# Altium schematic symbol library SBCLib.SchLib: 99 symbols (part 1 of 2)
Pins are listed as number, name and electrical type; pins without a type are passive.

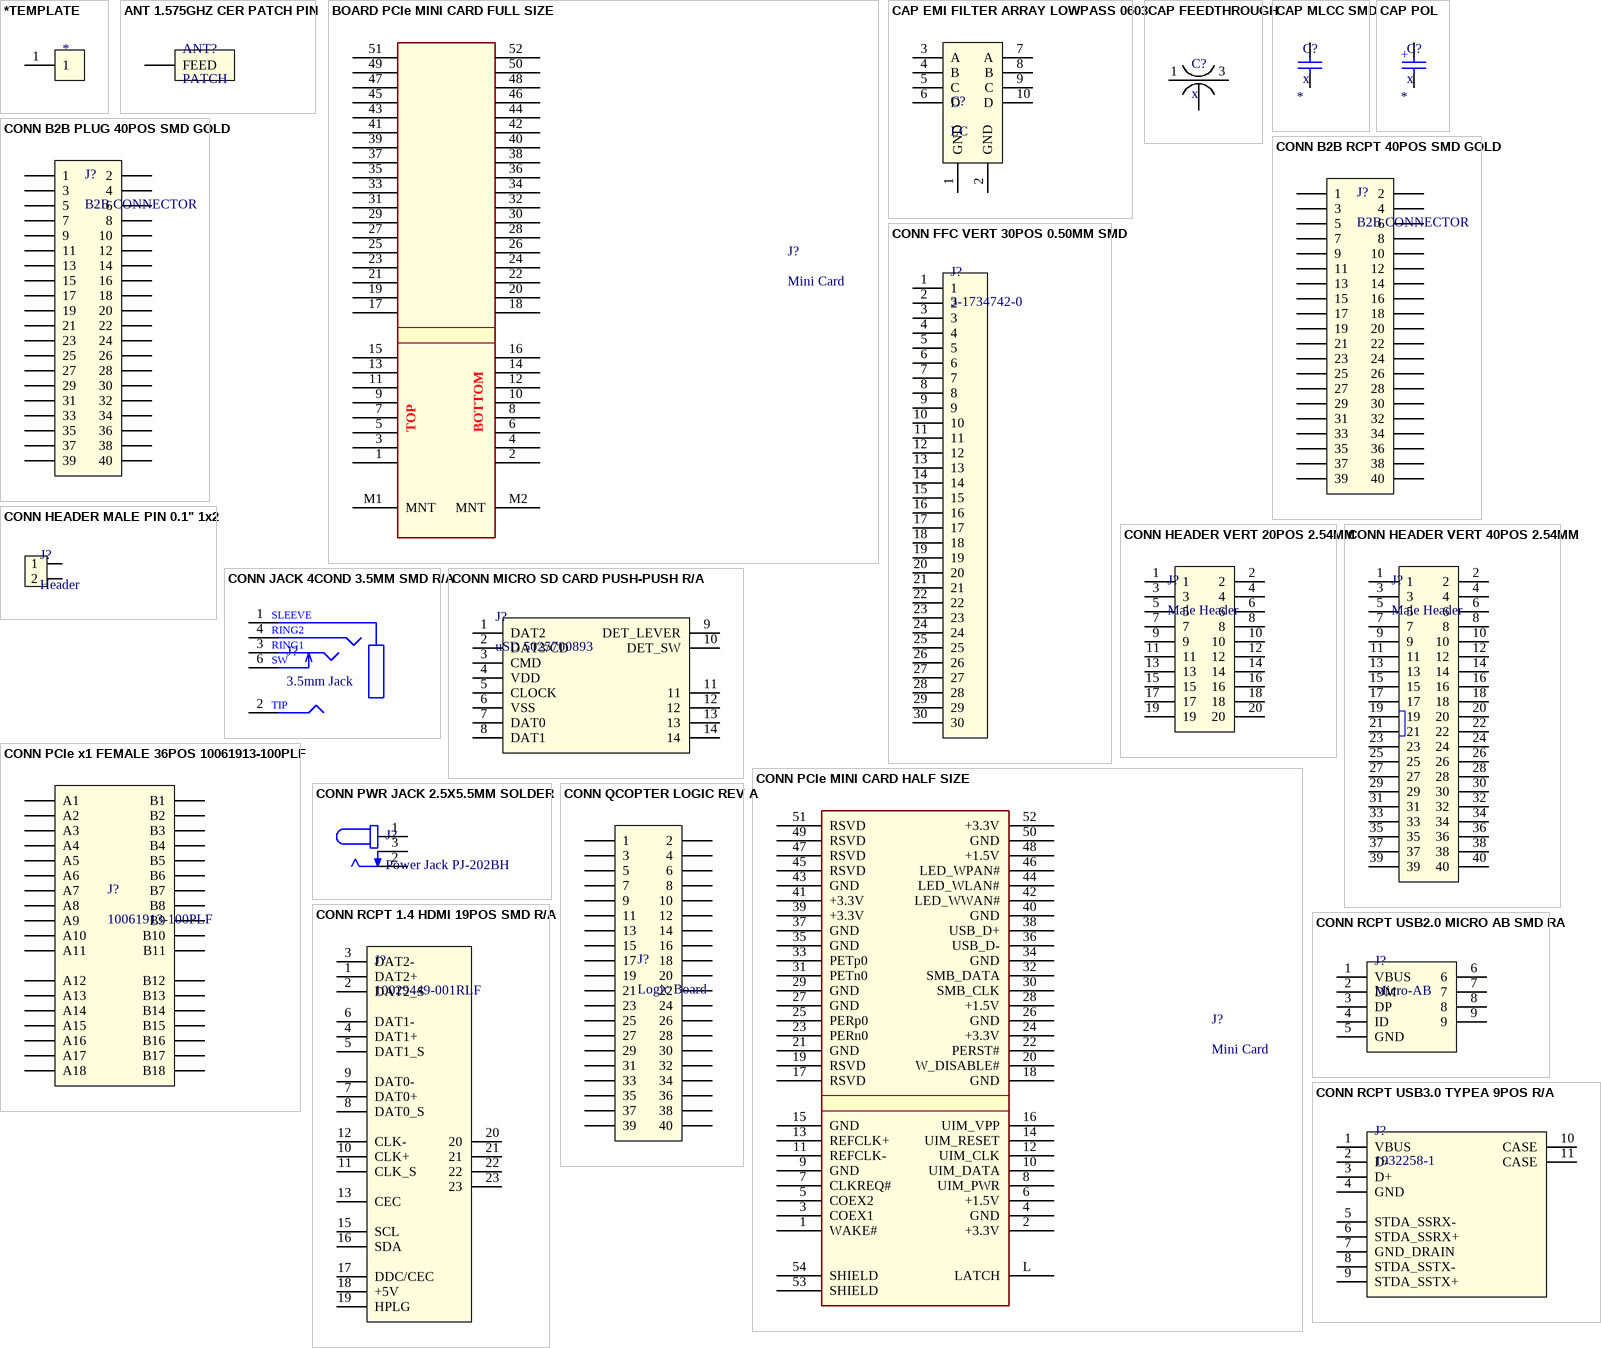
[diagram p0: symbols *TEMPLATE to CONN RCPT USB3.0 TYPEA 9POS R/A]

## *TEMPLATE
designator *
1. Manufacturer: *; 2. Manufacturer Part Number: *; 3. Date Modified: *
pins: 1

## ANT 1.575GHZ CER PATCH PIN
designator ANT?, comment PATCH
ANT 1.575GHZ CER PATCH PIN; 1. Manufacturer: Taoglas Limited; 2. Manufacturer Part Number: GP.1575.18.4.A.02; 3. Date Modified: 20201122
footprint TAOGLAS_GP.1575.18.4.A.02
pins: 1 FEED

## BOARD PCIe MINI CARD FULL SIZE
designator J?, comment Mini Card  (no BOM)
BOARD PCIe MINI CARD FULL SIZE; 3. Date Modified: 20201018
footprint CONN EDGE PCIE MINI CARD
pins: 1 WAKE#, 2 +3.3V (power), 3 COEX1, 4 GND (power), 5 COEX2, 6 +1.5V (power), 7 CLKREQ#, 8 UIM_PWR, 9 GND (power), 10 UIM_DATA, 11 REFCLK-, 12 UIM_CLK, 13 REFCLK+, 14 UIM_RESET, 15 GND (power), 16 UIM_VPP, 17 RSVD, 18 GND (power), 19 RSVD, 20 W_DISABLE#, 21 GND (power), 22 PERST#, 23 PERn0, 24 +3.3V (power), 25 PERp0, 26 GND (power), 27 GND (power), 28 +1.5V (power), 29 GND (power), 30 SMB_CLK, 31 PETn0, 32 SMB_DATA, 33 PETp0, 34 GND (power), 35 GND (power), 36 USB_D-, 37 GND (power), 38 USB_D+, 39 +3.3V (power), 40 GND (power), 41 +3.3V (power), 42 LED_WWAN#, 43 GND, 44 LED_WLAN#, 45 RSVD, 46 LED_WPAN#, 47 RSVD, 48 +1.5V (power), 49 RSVD, 50 GND (power), 51 RSVD, 52 +3.3V (power), M1 MNT, M2 MNT
text: TOP; BOTTOM

## CAP EMI FILTER ARRAY LOWPASS 0603
designator C?, comment LC
CAP EMI FILTER ARRAY LOWPASS 0603; 1. Manufacturer: Murata Electronics; 2. Manufacturer Part Number: NFA18SL307V1A45L; 3. Date Modified: 20201122
footprint SMD CAP FEEDTHROUGH ARRAY
pins: 1 GND, 2 GND, 3 A, 4 B, 5 C, 6 D, 7 A, 8 B, 9 C, 10 D

## CAP FEEDTHROUGH
designator C?, comment x
Generic 4 pad feedthrough cap
footprint 0805 3 PAD THROUGH CAP
pins: 1, 2, 3, 4

## CAP MLCC SMD
designator C?, comment x
Generic MLCC SMD Capacitor Symbol; 1. Manufacturer: *; 2. Manufacturer Part Number: *; 3. Date Modified: *; 4. Package: *
footprint SMD CAP 0805
footprint SMD CAP 0603
footprint SMD CAP 0402
footprint SMD CAP 0201
footprint SMD CAP 1206
pins: 1, 2

## CAP POL
designator C?, comment x
Generic Polarized Capacitor Symbol; 1. Manufacturer: *; 2. Manufacturer Part Number: *; 3. Date Modified: *; 4. Package: *
footprint CAP POL 16SVPC100M
footprint SMD CAP TANT 2917
footprint CAP POL UUG2A101MNQ1ZD
footprint CAP POL UUG1J331MNQ6MS
footprint CAP POL UCD1J221MNQ1MS
footprint POLARIZED CAP THROUGH HOLE SIDE MOUNT
pins: 1, 2
text: +

## CONN B2B PLUG 40POS SMD GOLD
designator J?, comment B2B CONNECTOR
40 Position Connector Plug, Center Strip Contacts Surface Mount Gold; 1. Manufacturer: Amphenol ICC (FCI); 2. Manufacturer Part Number: 10144517-041802LF; 3. Date Modified: 20201130
footprint CONN B2B PLUG 40POS SMD GOLD (10144518)
pins: 1, 2, 3, 4, 5, 6, 7, 8, 9, 10, 11, 12, 13, 14, 15, 16, 17, 18, 19, 20, 21, 22, 23, 24, 25, 26, 27, 28, 29, 30, 31, 32, 33, 34, 35, 36, 37, 38, 39, 40

## CONN B2B RCPT 40POS SMD GOLD
designator J?, comment B2B CONNECTOR
40 Position Connector Receptacle, Outer Shroud Contacts Surface Mount Gold; 1. Manufacturer: Amphenol ICC (FCI); 2. Manufacturer Part Number: 10144517-041802LF; 3. Date Modified: 20201130
footprint CONN B2B RECPT 40POS SMD GOLD (10144517)
pins: 1, 2, 3, 4, 5, 6, 7, 8, 9, 10, 11, 12, 13, 14, 15, 16, 17, 18, 19, 20, 21, 22, 23, 24, 25, 26, 27, 28, 29, 30, 31, 32, 33, 34, 35, 36, 37, 38, 39, 40

## CONN FFC VERT 30POS 0.50MM SMD
designator J?, comment 3-1734742-0
CONN FFC VERT 30POS 0.50MM SMD; 1. Manufacturer: TE Connectivity AMP Connectors; 2. Manufacturer Part Number: 3-1734742-0; 3. Date Modified: 20200906
footprint CONN FFC 3-1734742-0
pins: 1, 2, 3, 4, 5, 6, 7, 8, 9, 10, 11, 12, 13, 14, 15, 16, 17, 18, 19, 20, 21, 22, 23, 24, 25, 26, 27, 28, 29, 30

## CONN HEADER MALE PIN 0.1" 1x2
designator J?, comment Header
CONN HEADER MALE PIN 0.1" 1x2; 1. Manufacturer: Adam Tech; 2. Manufacturer Part Number: PH1-02-UA; 3. Date Modified: 20200913
footprint HEADER 0.1" 1x2 MALE PIN
pins: 1, 2

## CONN HEADER VERT 20POS 2.54MM
designator J?, comment Male Header
CONN HEADER VERT 20POS 2.54MM; 1. Manufacturer: Amphenol ICC (FCI); 2. Manufacturer Part Number: 67996-420HLF; 3. Date Modified: 20200911
footprint CONN HEADER PINS 0.1" 2X10
pins: 1, 2, 3, 4, 5, 6, 7, 8, 9, 10, 11, 12, 13, 14, 15, 16, 17, 18, 19, 20

## CONN HEADER VERT 40POS 2.54MM
designator J?, comment Male Header
CONN HEADER VERT 40POS 2.54MM; 1. Manufacturer: 3M; 2. Manufacturer Part Number: 30340-6002HB; 3. Date Modified: 20200911
footprint CONN HEADER PINS SHROUDED .1" 2x20
pins: 1, 2, 3, 4, 5, 6, 7, 8, 9, 10, 11, 12, 13, 14, 15, 16, 17, 18, 19, 20, 21, 22, 23, 24, 25, 26, 27, 28, 29, 30, 31, 32, 33, 34, 35, 36, 37, 38, 39, 40

## CONN JACK 4COND 3.5MM SMD R/A
designator J?, comment 3.5mm Jack
CONN JACK 4COND 3.5MM SMD R/A; 1. Manufacturer: CUI Devices; 2. Manufacturer Part Number: SJ-43515RS-SMT-TR; 3. Date Modified: 20200907
footprint CONN JACK 4COND 3.5MM SMD R/A
pins: 1, 2 TIP, 3, 4, 6
text: SLEEVE; RING2; RING1; SW

## CONN MICRO SD CARD PUSH-PUSH R/A
designator J?, comment uSD 5025700893
CONN MICRO SD CARD PUSH-PUSH R/A; 1. Manufacturer: Molex; 2. Manufacturer Part Number: 5025700893; 3. Date Modified: 20200809
footprint CONN MICROSD MOLEX 5025700893
pins: 1 DAT2, 2 DAT3/CD, 3 CMD, 4 VDD, 5 CLOCK, 6 VSS, 7 DAT0, 8 DAT1, 9 DET_LEVER, 10 DET_SW, 11, 12, 13, 14

## CONN PCIe MINI CARD HALF SIZE
designator J?, comment Mini Card
CONN PCIe MINI CARD HALF SIZE; 1. Manufacturer: Molex, TE Connectivity; 2. Manufacturer Part Number: 0480995701, 1775838-2; 3. Date Modified: 20201018
footprint CONN PCIE MINI CARD HALF SMT 1775838-2
pins: 1 WAKE#, 2 +3.3V (power), 3 COEX1, 4 GND (power), 5 COEX2, 6 +1.5V (power), 7 CLKREQ#, 8 UIM_PWR, 9 GND (power), 10 UIM_DATA, 11 REFCLK-, 12 UIM_CLK, 13 REFCLK+, 14 UIM_RESET, 15 GND (power), 16 UIM_VPP, 17 RSVD, 18 GND (power), 19 RSVD, 20 W_DISABLE#, 21 GND (power), 22 PERST#, 23 PERn0, 24 +3.3V (power), 25 PERp0, 26 GND (power), 27 GND (power), 28 +1.5V (power), 29 GND (power), 30 SMB_CLK, 31 PETn0, 32 SMB_DATA, 33 PETp0, 34 GND (power), 35 GND (power), 36 USB_D-, 37 GND (power), 38 USB_D+, 39 +3.3V (power), 40 GND (power), 41 +3.3V (power), 42 LED_WWAN#, 43 GND, 44 LED_WLAN#, 45 RSVD, 46 LED_WPAN#, 47 RSVD, 48 +1.5V (power), 49 RSVD, 50 GND (power), 51 RSVD, 52 +3.3V (power), 53 SHIELD, 54 SHIELD, L LATCH

## CONN PCIe x1 FEMALE 36POS 10061913-100PLF
designator J?, comment 10061913-100PLF
CONN PCIe x1 FEMALE 36POS 10061913-100PLF; 1. Manufacturer: Amphenol ICC (FCI); 2. Manufacturer Part Number: 10061913-100PLF; 3. Date Modified: 20200821
footprint CONN PCIe x1 FEMALE
pins: A1, A2, A3, A4, A5, A6, A7, A8, A9, A10, A11, A12, A13, A14, A15, A16, A17, A18, B1, B2, B3, B4, B5, B6, B7, B8, B9, B10, B11, B12, B13, B14, B15, B16, B17, B18

## CONN PWR JACK 2.5X5.5MM SOLDER
designator J?, comment Power Jack PJ-202BH
CONN PWR JACK 2.5X5.5MM SOLDER; 1. Manufacturer: CUI Devices; 2. Manufacturer Part Number: PJ-202BH; 3. Date Modified: 20200807
footprint CONN PWR JACK 2.5MM
pins: 1, 2, 3

## CONN QCOPTER LOGIC REV A
designator J?, comment Logic Board
CONN QCOPTER LOGIC REV A; 1. Manufacturer: Amphenol ICC (FCI); 2. Manufacturer Part Number: 10144517-041802LF; 3. Date Modified: 20201203
footprint CONN QCOPTER LOGIC Rev A
pins: 1, 2, 3, 4, 5, 6, 7, 8, 9, 10, 11, 12, 13, 14, 15, 16, 17, 18, 19, 20, 21, 22, 23, 24, 25, 26, 27, 28, 29, 30, 31, 32, 33, 34, 35, 36, 37, 38, 39, 40

## CONN RCPT 1.4 HDMI 19POS SMD R/A
designator J?, comment 10029449-001RLF
CONN RCPT 1.4 HDMI 19POS SMD R/A; 1. Manufacturer: Amphenol ICC (FCI); 2. Manufacturer Part Number: 10029449-001RLF; 3. Date Modified: 20200821
footprint CONN HDMI 10029449-001RLF
pins: 1 DAT2+, 2 DAT2_S, 3 DAT2-, 4 DAT1+, 5 DAT1_S, 6 DAT1-, 7 DAT0+, 8 DAT0_S, 9 DAT0-, 10 CLK+, 11 CLK_S, 12 CLK-, 13 CEC, 15 SCL, 16 SDA, 17 DDC/CEC, 18 +5V, 19 HPLG, 20, 21, 22, 23

## CONN RCPT USB2.0 MICRO AB SMD RA
designator J?, comment Micro-AB
CONN RCPT USB2.0 MICRO AB SMD RA; 1. Manufacturer: Hirose Electric Co Ltd; 2. Manufacturer Part Number: ZX62-AB-5PA(31); 3. Date Modified: 20200821
footprint CONN USB MICRO_AB
pins: 1 VBUS, 2 DM, 3 DP, 4 ID, 5 GND, 6, 7, 8, 9

## CONN RCPT USB3.0 TYPEA 9POS R/A
designator J?, comment 1932258-1
CONN RCPT USB3.0 TYPEA 9POS R/A; 1. Manufacturer: TE Connectivity AMP Connectors; 2. Manufacturer Part Number: 1932258-1; 3. Date Modified: 20200821
footprint CONN USB3.0 1932258-1
pins: 1 VBUS, 2 D-, 3 D+, 4 GND, 5 STDA_SSRX-, 6 STDA_SSRX+, 7 GND_DRAIN, 8 STDA_SSTX-, 9 STDA_SSTX+, 10 CASE, 11 CASE

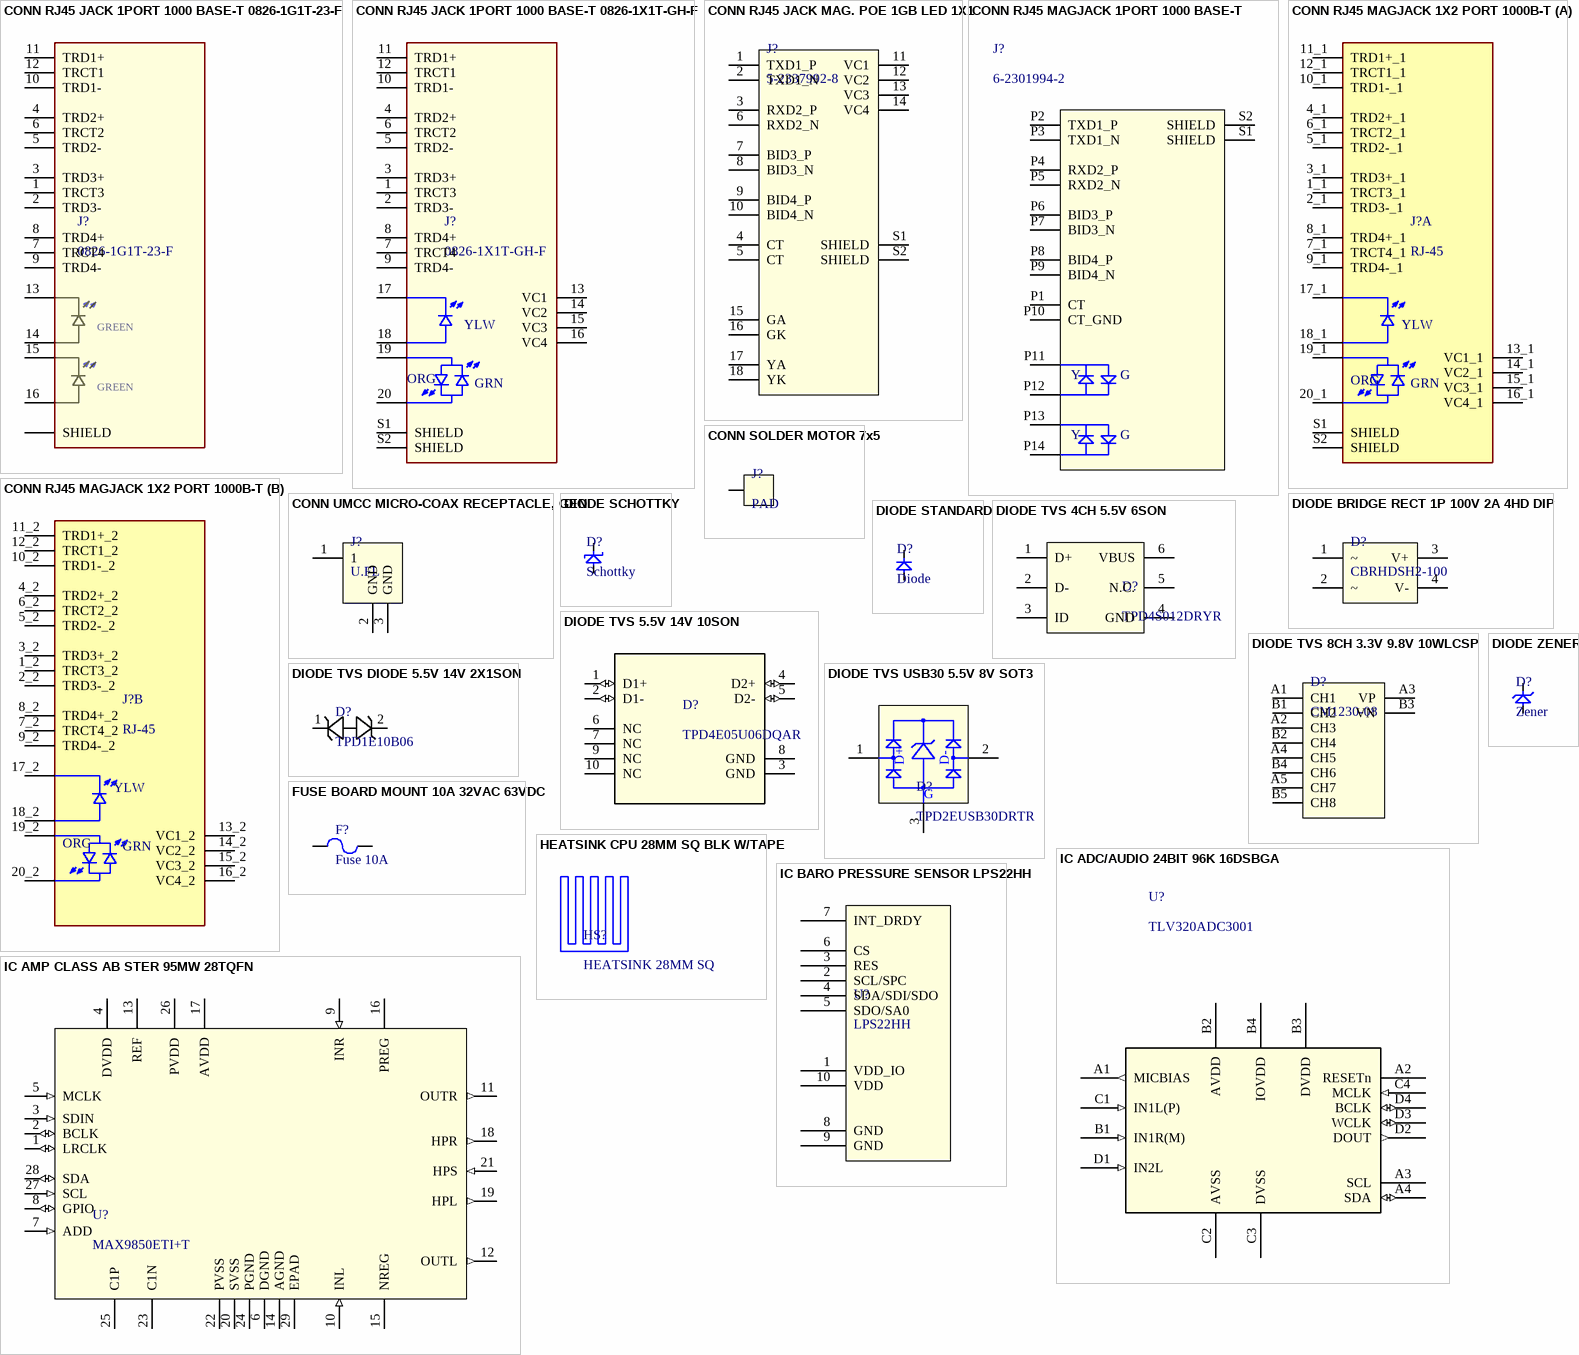
[diagram p1: symbols CONN RJ45 JACK 1PORT 1000 BASE-T 0826-1G1T-23-F to IC BARO PRESSURE SENSOR LPS22HH]

## CONN RJ45 JACK 1PORT 1000 BASE-T 0826-1G1T-23-F
designator J?, comment 0826-1G1T-23-F
CONN RJ45 JACK 1PORT 1000 BASE-T 0826-1G1T-23-F; 1. Manufacturer: Bel Fuse Inc.; 2. Manufacturer Part Number: 0826-1G1T-23-F; 3. Date Modified: 20200831
footprint CONN RJ45 JACK MAG 1GB 0826-1G1T-23-F (0826-1G1T-23-F)
pins: 1 TRCT3, 2 TRD3-, 3 TRD3+, 4 TRD2+, 5 TRD2-, 6 TRCT2, 7 TRCT4, 8 TRD4+, 9 TRD4-, 10 TRD1-, 11 TRD1+, 12 TRCT1, 13, 14, 15, 16, S1 SHIELD, S2 SHIELD
text: GREEN

## CONN RJ45 JACK 1PORT 1000 BASE-T 0826-1X1T-GH-F
designator J?, comment 0826-1X1T-GH-F
CONN JACK 1PORT 1000 BASE-T 0826-1X1T-GH-F; 1. Manufacturer: Bel Fuse Inc.; 2. Manufacturer Part Number: 0826-1X1T-GH-F; 3. Date Modified: 20200831
footprint CONN RJ45 JACK MAG 1GB POEp 0826-1X1T-GH-F (0826-1X1T-GH-F)
pins: 1 TRCT3, 2 TRD3-, 3 TRD3+, 4 TRD2+, 5 TRD2-, 6 TRCT2, 7 TRCT4, 8 TRD4+, 9 TRD4-, 10 TRD1-, 11 TRD1+, 12 TRCT1, 13 VC1, 14 VC2, 15 VC3, 16 VC4, 17, 18, 19, 20, S1 SHIELD, S2 SHIELD
text: YLW; ORG; GRN

## CONN RJ45 JACK MAG. POE 1GB LED 1X1
designator J?, comment 5-2337992-8
CONN RJ45 JACK MAG. POE 1GB LED 1X1; 1. Manufacturer: TE Connectivity AMP Connectors; 2. Manufacturer Part Number: 5-2337992-8; 3. Date Modified: 20200824
footprint CONN RJ45 JACK MAG POE 1GB LED 1X1
pins: 1 TXD1_P, 2 TXD1_N, 3 RXD2_P, 4 CT, 5 CT, 6 RXD2_N, 7 BID3_P, 8 BID3_N, 9 BID4_P, 10 BID4_N, 11 VC1, 12 VC2, 13 VC3, 14 VC4, 15 GA, 16 GK, 17 YA, 18 YK, S1 SHIELD, S2 SHIELD

## CONN RJ45 MAGJACK 1PORT 1000 BASE-T
designator J?, comment 6-2301994-2
CONN RJ45 MAGJACK 1PORT 1000 BASE-T; 1. Manufacturer: TE Connectivity AMP Connectors; 2. Manufacturer Part Number: 6-2301994-2; 3. Date Modified: 20200824
footprint CONN RJ45 JACK 1PORT 1000 BASE-T (6-2301994-2)
pins: P1 CT, P2 TXD1_P, P3 TXD1_N, P4 RXD2_P, P5 RXD2_N, P6 BID3_P, P7 BID3_N, P8 BID4_P, P9 BID4_N, P10 CT_GND, P11, P12, P13, P14, S1 SHIELD, S2 SHIELD
text: Y; G

## CONN RJ45 MAGJACK 1X2 PORT 1000B-T
designator J?, comment RJ-45
CONN RJ45 MAGJACK 1X2 PORT 1000B-T; 1. Manufacturer: Bel Fuse Inc.; 2. Manufacturer Part Number: 0826-1X2T-HS-F; 3. Date Modified: 20200821
footprint CONN RJ45 1x2 0826-1X2T-HS-F
part A pins: 1_1 TRCT3_1, 2_1 TRD3-_1, 3_1 TRD3+_1, 4_1 TRD2+_1, 5_1 TRD2-_1, 6_1 TRCT2_1, 7_1 TRCT4_1, 8_1 TRD4+_1, 9_1 TRD4-_1, 10_1 TRD1-_1, 11_1 TRD1+_1, 12_1 TRCT1_1, 13_1 VC1_1, 14_1 VC2_1, 15_1 VC3_1, 16_1 VC4_1, 17_1, 18_1, 19_1, 20_1, S1 SHIELD, S2 SHIELD
part B pins: 1_2 TRCT3_2, 2_2 TRD3-_2, 3_2 TRD3+_2, 4_2 TRD2+_2, 5_2 TRD2-_2, 6_2 TRCT2_2, 7_2 TRCT4_2, 8_2 TRD4+_2, 9_2 TRD4-_2, 10_2 TRD1-_2, 11_2 TRD1+_2, 12_2 TRCT1_2, 13_2 VC1_2, 14_2 VC2_2, 15_2 VC3_2, 16_2 VC4_2, 17_2, 18_2, 19_2, 20_2
part A text: YLW; ORG; GRN
part B text: YLW; ORG; GRN

## CONN SOLDER MOTOR 7x5
designator J?, comment PAD  (no BOM)
CONN SOLDER MOTOR 7x5; 1. Manufacturer: *; 2. Manufacturer Part Number: *; 3. Date Modified: *
footprint CONN SOLDER MOTOR
pins: 1

## CONN UMCC MICRO-COAX RECEPTACLE, GEN
designator J?, comment U.FL
CONN UMCC MICRO-COAX RECEPTACLE, GEN; 1. Manufacturer: TE Connectivity AMP Connectors; 2. Manufacturer Part Number: 2337019-1; 3. Date Modified: 20201122
footprint U.FL
pins: 1, 2 GND, 3 GND

## DIODE BRIDGE RECT 1P 100V 2A 4HD DIP
designator D?, comment CBRHDSH2-100
DIODE BRIDGE RECT 1P 100V 2A 4HD DIP; 1. Manufacturer: Central Semiconductor Corp; 2. Manufacturer Part Number: CBRHDSH2-100; 3. Date Modified: 20200824
footprint SMD BRIDGE RECTIFIER CBRHDSH2-100
pins: 1 ~, 2 ~, 3 V+, 4 V-

## DIODE SCHOTTKY
designator D?, comment Schottky
Generic Schottky Diode Symbol; 1. Manufacturer: *; 2. Manufacturer Part Number: *; 3. Date Modified: 20200807
footprint DIODE SMC (DO-214AB) AK
footprint DIODE 0402 2-X1SON
footprint DIODE Z5-T COMCHIP
footprint DIODE SOD123W
pins: A, K

## DIODE STANDARD
designator D?, comment Diode
Generic Unidirectional Standard Diode Symbol; 1. Manufacturer: *; 2. Manufacturer Part Number: *; 3. Date Modified: 20200807
footprint DIODE SMC (DO-214AB) AK
footprint DIODE 0402 2-X1SON
footprint DIODE SMA (DO-214AC) (GENERIC SMA DIODE)
footprint DIODE SOD123
footprint DIODE SOD-523F
pins: A, K

## DIODE TVS 4CH 5.5V 6SON
designator D?, comment TPD4S012DRYR
DIODE TVS 4CH 5.5V 6SON; 1. Manufacturer: Texas Instruments; 2. Manufacturer Part Number: TPD4S012DRYR; 3. Date Modified: 20200910
footprint SON-6 1.45x1
pins: 1 D+, 2 D-, 3 ID, 4 GND (power), 5 N.C., 6 VBUS

## DIODE TVS 5.5V 14V 10SON
designator D?, comment TPD4E05U06DQAR
DIODE TVS 5.5V 14V 10SON; 1. Manufacturer: Texas Instruments; 2. Manufacturer Part Number: TPD4E05U06DQAR; 3. Date Modified: 20200910
footprint USON-10 2.5x1
pins: 1 D1+ (io), 2 D1- (io), 3 GND (power), 4 D2+ (io), 5 D2- (io), 6 NC, 7 NC, 8 GND (power), 9 NC, 10 NC

## DIODE TVS 8CH 3.3V 9.8V 10WLCSP
designator D?, comment CM1230-08
DIODE TVS 8CH 3.3V 9.8V 10WLCSP; 1. Manufacturer: ON Semiconductor; 2. Manufacturer Part Number: CM1230-08CP; 3. Date Modified: 20200911
footprint WLCSP-10
pins: A1 CH1, A2 CH3, A3 VP, A4 CH5, A5 CH7, B1 CH2, B2 CH4, B3 VN, B4 CH6, B5 CH8

## DIODE TVS DIODE 5.5V 14V 2X1SON
designator D?, comment TPD1E10B06
DIODE TVS DIODE 5.5V 14V 2X1SON; 1. Manufacturer: Texas Instruments; 2. Manufacturer Part Number: TPD1E10B06DPYR; 3. Date Modified: 20200805
footprint DIODE 0402 2-X1SON
pins: 1, 2

## DIODE TVS USB30 5.5V 8V SOT3
designator D?, comment TPD2EUSB30DRTR
DIODE TVS USB30 5.5V 8V SOT3; 1. Manufacturer: Texas Instruments; 2. Manufacturer Part Number: TPD2EUSB30DRTR; 3. Date Modified: 20200910
footprint SOT-3
pins: 1 D+, 2 D-, 3 GND
text: G

## DIODE ZENER
designator D?, comment Zener
Generic Unidirectional Zener Diode Symbol; 1. Manufacturer: *; 2. Manufacturer Part Number: *; 3. Date Modified: 20200807
footprint DIODE SMC (DO-214AB) AK
footprint DIODE 0402 2-X1SON
footprint DIODE SMA (DO-214AC) (GENERIC SMA DIODE)
footprint DIODE SOD-523
pins: A, K

## FUSE BOARD MOUNT 10A 32VAC 63VDC
designator F?, comment Fuse 10A
FUSE BOARD MOUNT 10A 32VAC 63VDC; 1. Manufacturer: Littelfuse Inc.; 2. Manufacturer Part Number: 0458010.DR; 3. Date Modified: 20200807
footprint FUSE SMT 1206
pins: 1, 2

## HEATSINK CPU 28MM SQ BLK W/TAPE
designator HS?, comment HEATSINK 28MM SQ
HEATSINK CPU 28MM SQ BLK W/TAPE; 1. Manufacturer: Wakefield-Vette; 2. Manufacturer Part Number: 658-60ABT1E; 3. Date Modified: 20200913
footprint HEATSINK CPU 28MM SQ BLK W/TAPE

## IC ADC/AUDIO 24BIT 96K 16DSBGA
designator U?, comment TLV320ADC3001
IC ADC/AUDIO 24BIT 96K 16DSBGA; 1. Manufacturer: Texas Instruments; 2. Manufacturer Part Number: TLV320ADC3001IYZHT; 3. Date Modified: 20200909
footprint DSBGA-16
pins: A1 MICBIAS (out), A2 RESETn, A3 SCL, A4 SDA (io), B1 IN1R(M) (in), B2 AVDD (power), B3 DVDD (power), B4 IOVDD (power), C1 IN1L(P) (in), C2 AVSS (power), C3 DVSS (power), C4 MCLK (in), D1 IN2L (in), D2 DOUT (out), D3 WCLK (io), D4 BCLK (io)

## IC AMP CLASS AB STER 95MW 28TQFN
designator U?, comment MAX9850ETI+T
IC AMP CLASS AB STER 95MW 28TQFN; 1. Manufacturer: Maxim Integrated; 2. Manufacturer Part Number: MAX9850ETI+T; 3. Date Modified: 20200907
footprint QFN-28 5x5
pins: 1 LRCLK (io), 2 BCLK (io), 3 SDIN (in), 4 DVDD (power), 5 MCLK (in), 6 DGND (power), 7 ADD (in), 8 GPIO (io), 9 INR (in), 10 INL (in), 11 OUTR (out), 12 OUTL (out), 13 REF (power), 14 AGND (power), 15 NREG (power), 16 PREG (power), 17 AVDD (power), 18 HPR (out), 19 HPL (out), 20 SVSS (power), 21 HPS (in), 22 PVSS (power), 23 C1N, 24 PGND (power), 25 C1P, 26 PVDD (power), 27 SCL (in), 28 SDA (io), 29 EPAD (power)

## IC BARO PRESSURE SENSOR LPS22HH
designator U?, comment LPS22HH
IC BARO PRESSURE SENSOR LPS22HH; 1. Manufacturer: STMicroelectronics; 2. Manufacturer Part Number: LPS22HHTR; 3. Date Modified: 20201122
footprint LGA-10
pins: 1 VDD_IO (power), 2 SCL/SPC, 3 RES, 4 SDA/SDI/SDO, 5 SDO/SA0, 6 CS, 7 INT_DRDY, 8 GND, 9 GND, 10 VDD (power)

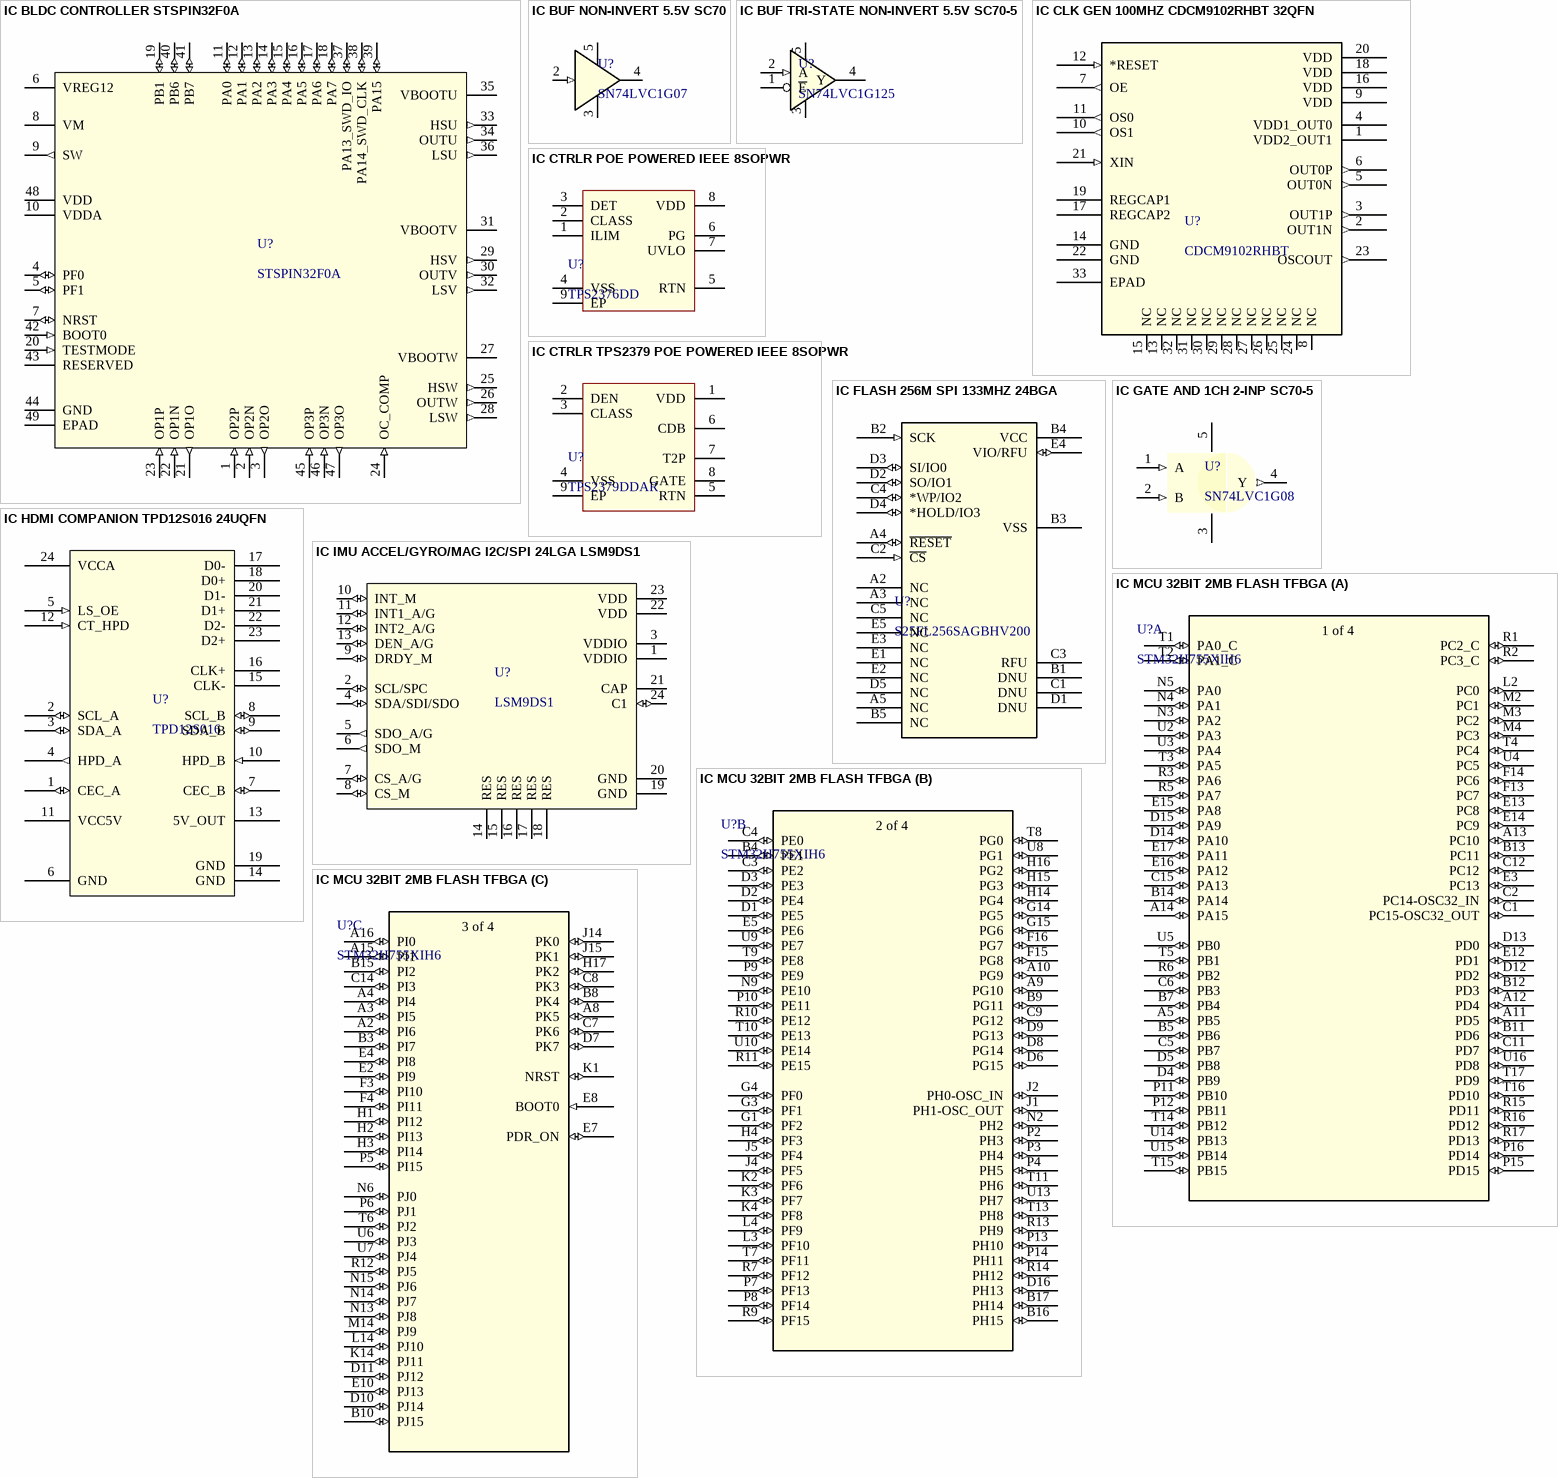
[diagram p2: symbols IC BLDC CONTROLLER STSPIN32F0A to IC MCU 32BIT 2MB FLASH TFBGA]

## IC BLDC CONTROLLER STSPIN32F0A
designator U?, comment STSPIN32F0A
IC BLDC CONTROLLER STSPIN32F0A; 1. Manufacturer: ST; 2. Manufacturer Part Number: STSPIN32F0A; 3. Date Modified: 20201118
footprint VQFN-48 7x7
pins: 1 OP2P (in), 2 OP2N (in), 3 OP2O (out), 4 PF0 (io), 5 PF1 (io), 6 VREG12 (power), 7 NRST (io), 8 VM (power), 9 SW (out), 10 VDDA (power), 11 PA0 (io), 12 PA1 (io), 13 PA2 (io), 14 PA3 (io), 15 PA4 (io), 16 PA5 (io), 17 PA6 (io), 18 PA7 (io), 19 PB1 (io), 20 TESTMODE (in), 21 OP1O (out), 22 OP1N (in), 23 OP1P (in), 24 OC_COMP (in), 25 HSW (out), 26 OUTW (out), 27 VBOOTW (power), 28 LSW (out), 29 HSV (out), 30 OUTV (out), 31 VBOOTV (power), 32 LSV (out), 33 HSU (out), 34 OUTU (out), 35 VBOOTU (power), 36 LSU (out), 37 PA13_SWD_IO (io), 38 PA14_SWD_CLK (io), 39 PA15 (io), 40 PB6 (io), 41 PB7 (io), 42 BOOT0 (in), 43 RESERVED, 44 GND (power), 45 OP3P (in), 46 OP3N (in), 47 OP3O (out), 48 VDD (power), 49 EPAD

## IC BUF NON-INVERT 5.5V SC70
designator U?, comment SN74LVC1G07
IC BUF NON-INVERT 5.5V SC70 OPEN DRAIN OUTPUT; 1. Manufacturer: Texas Instruments; 2. Manufacturer Part Number: SN74LVC1G07DCKR; 3. Date Modified: 20200805
footprint SC70-5
pins: 2 (in), 3 (power), 4 (oc), 5 (power)

## IC BUF TRI-STATE NON-INVERT 5.5V SC70-5
designator U?, comment SN74LVC1G125
IC BUF TRI-STATE NON-INVERT 5.5V SC70-5; 1. Manufacturer: Texas Instruments; 2. Manufacturer Part Number: SN74LVC1G125DCKR; 3. Date Modified: 20200828
footprint SC70-5
pins: 1 ~{E}, 2 A (in), 3 GND, 4 Y, 5 VCC

## IC CLK GEN 100MHZ CDCM9102RHBT 32QFN
designator U?, comment CDCM9102RHBT
IC CLK GEN 100MHZ CDCM9102RHBT 32QFN; 1. Manufacturer: Texas Instruments; 2. Manufacturer Part Number: CDCM9102RHBT; 3. Date Modified: 20200829
footprint QFN-32 5x5
pins: 1 VDD2_OUT1 (power), 2 OUT1N (out), 3 OUT1P (out), 4 VDD1_OUT0 (power), 5 OUT0N (out), 6 OUT0P (out), 7 OE (out), 8 NC, 9 VDD (power), 10 OS1 (out), 11 OS0 (out), 12 *RESET (in), 13 NC, 14 GND (power), 15 NC, 16 VDD (power), 17 REGCAP2, 18 VDD (power), 19 REGCAP1, 20 VDD (power), 21 XIN (in), 22 GND (power), 23 OSCOUT (out), 24 NC, 25 NC, 26 NC, 27 NC, 28 NC, 29 NC, 30 NC, 31 NC, 32 NC, 33 EPAD

## IC CTRLR POE POWERED IEEE 8SOPWR
designator U?, comment TPS2376DD
IC CTRLR POE POWERED IEEE 8SOPWR TPS2376DD; 1. Manufacturer: TI; 2. Manufacturer Part Number: TPS2376DD; 3. Last Modified: 20200823
footprint SO8N WP (INDUSTRY STANDARD SO-8N W PAD)
pins: 1 ILIM, 2 CLASS, 3 DET, 4 VSS, 5 RTN, 6 PG, 7 UVLO, 8 VDD, 9 EP

## IC CTRLR TPS2379 POE POWERED IEEE 8SOPWR
designator U?, comment TPS2379DDAR
IC CTRLR TPS2379 POE POWERED IEEE 8SOPWR; 1. Manufacturer: TI; 2. Manufacturer Part Number: TPS2379DDAR; 3. Last Modified: 20200824
footprint SO8N WP (INDUSTRY STANDARD SO-8N W PAD)
pins: 1 VDD, 2 DEN, 3 CLASS, 4 VSS, 5 RTN, 6 CDB, 7 T2P, 8 GATE, 9 EP

## IC FLASH 256M SPI 133MHZ 24BGA
designator U?, comment S25FL256SAGBHV200
IC FLASH 256M SPI 133MHZ 24BGA; 1. Manufacturer: Cypress Semiconductor Corp; 2. Manufacturer Part Number: S25FL256SAGBHV200; 3. Date Modified: 20200909
footprint TFBGA-24 8x6
pins: A2 NC, A3 NC, A4 ~{RESET} (io), A5 NC, B1 DNU, B2 SCK (in), B3 VSS (power), B4 VCC (power), B5 NC, C1 DNU, C2 ~{CS} (in), C3 RFU, C4 *WP/IO2 (io), C5 NC, D1 DNU, D2 SO/IO1 (io), D3 SI/IO0 (io), D4 *HOLD/IO3 (io), D5 NC, E1 NC, E2 NC, E3 NC, E4 VIO/RFU (io), E5 NC

## IC GATE AND 1CH 2-INP SC70-5
designator U?, comment SN74LVC1G08
IC GATE AND 1CH 2-INP SC70-5; 1. Manufacturer: Texas Instruments; 2. Manufacturer Part Number: SN74LVC1G08DCKRG4; 3. Date Modified: 20200821
footprint SC70-5
pins: 1 A (in), 2 B (in), 3 GND (power), 4 Y (out), 5 VCC (power)

## IC HDMI COMPANION TPD12S016 24UQFN
designator U?, comment TPD12S016
IC HDMI COMPANION TPD12S016 24UQFN; 1. Manufacturer: Texas Instruments; 2. Manufacturer Part Number: TPD12S016; 3. Date Modified: 20200825
footprint TSSOP-24
pins: 1 CEC_A (io), 2 SCL_A (io), 3 SDA_A (io), 4 HPD_A (out), 5 LS_OE (in), 6 GND (power), 7 CEC_B (io), 8 SCL_B (io), 9 SDA_B (io), 10 HPD_B (in), 11 VCC5V (power), 12 CT_HPD (in), 13 5V_OUT (power), 14 GND (power), 15 CLK-, 16 CLK+, 17 D0-, 18 D0+, 19 GND (power), 20 D1-, 21 D1+, 22 D2-, 23 D2+, 24 VCCA (power)

## IC IMU ACCEL/GYRO/MAG I2C/SPI 24LGA LSM9DS1
designator U?, comment LSM9DS1
IMU ACCEL/GYRO/MAG I2C/SPI 24LGA LSM9DS1; 1. Manufacturer: STMicroelectronics; 2. Manufacturer Part Number: LSM9DS1TR; 3. Date Modified: 20201122
footprint LGA-24 (LSM9DS1)
pins: 1 VDDIO (power), 2 SCL/SPC (io), 3 VDDIO (power), 4 SDA/SDI/SDO (io), 5 SDO_A/G (out), 6 SDO_M (out), 7 CS_A/G (io), 8 CS_M (io), 9 DRDY_M (io), 10 INT_M (io), 11 INT1_A/G (io), 12 INT2_A/G (io), 13 DEN_A/G (io), 14 RES, 15 RES, 16 RES, 17 RES, 18 RES, 19 GND (power), 20 GND (power), 21 CAP, 22 VDD (power), 23 VDD (power), 24 C1 (io)

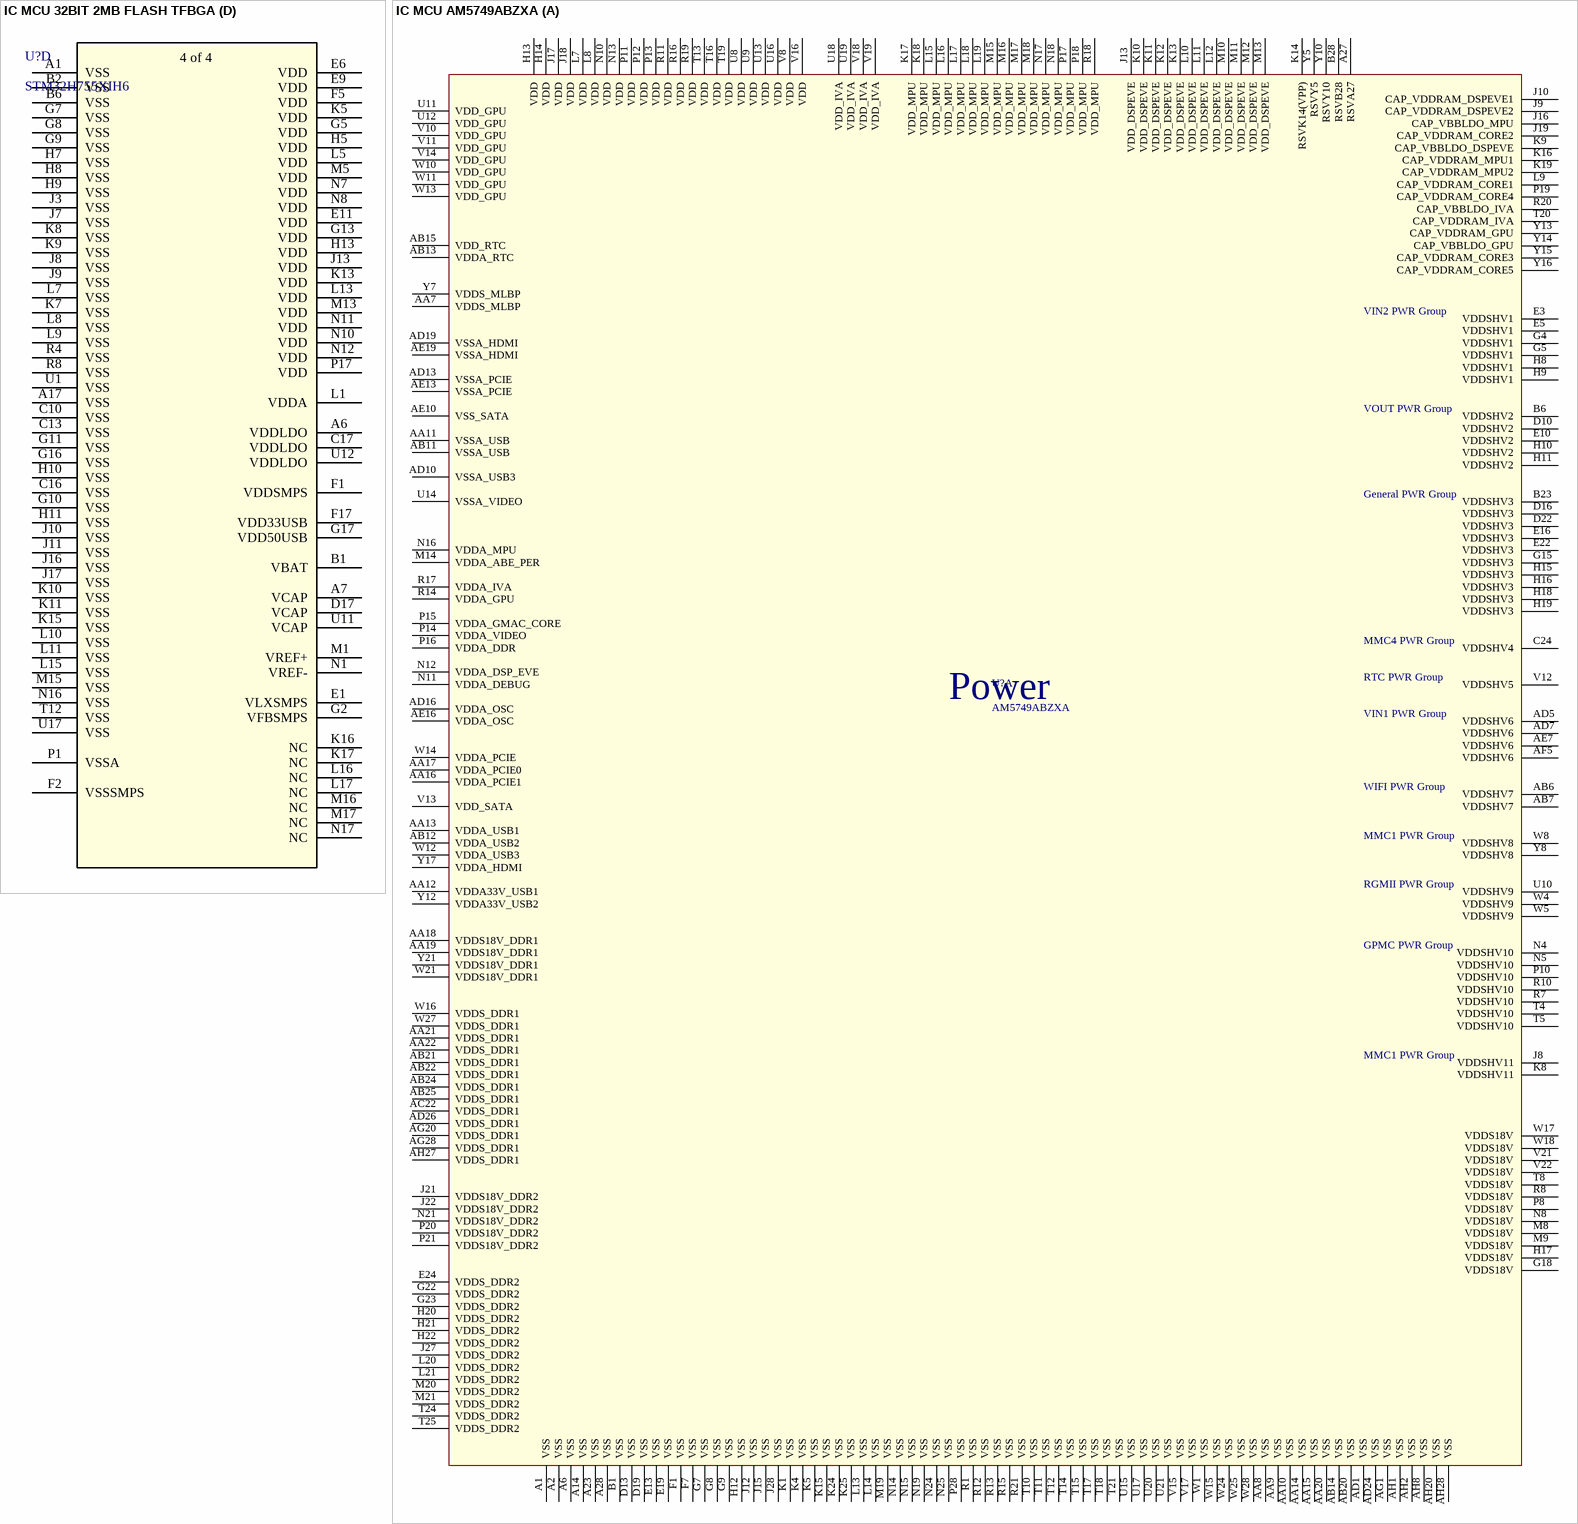
[diagram p3: symbols IC MCU 32BIT 2MB FLASH TFBGA to IC MCU AM5749ABZXA]

## IC MCU 32BIT 2MB FLASH TFBGA
designator U?, comment STM32H755XIH6
IC MCU 32BIT 2MB FLASH TFBGA; 1. Manufacturer: STMicroelectronics; 4. Footprint: TFBGA240+25; 2. Manufacturer Part Number: STM32H755XIH6; 3. Date Modified: 20201206
footprint TFBGA240+25
part A pins: A5 PB5 (io), A11 PD5 (io), A12 PD4 (io), A13 PC10 (io), A14 PA15 (io), B5 PB6 (io), B7 PB4 (io), B11 PD6 (io), B12 PD3 (io), B13 PC11 (io), B14 PA14 (io), C1 PC15-OSC32_OUT (io), C2 PC14-OSC32_IN (io), C5 PB7 (io), C6 PB3 (io), C11 PD7 (io), C12 PC12 (io), C15 PA13 (io), D4 PB9 (io), D5 PB8 (io), D12 PD2 (io), D13 PD0 (io), D14 PA10 (io), D15 PA9 (io), E3 PC13 (io), E12 PD1 (io), E13 PC8 (io), E14 PC9 (io), E15 PA8 (io), E16 PA12 (io), E17 PA11 (io), F13 PC7 (io), F14 PC6 (io), L2 PC0 (io), M2 PC1 (io), M3 PC2 (io), M4 PC3 (io), N3 PA2 (io), N4 PA1 (io), N5 PA0 (io), P11 PB10 (io), P12 PB11 (io), P15 PD15 (io), P16 PD14 (io), R1 PC2_C (io), R2 PC3_C (io), R3 PA6 (io), R5 PA7 (io), R6 PB2 (io), R15 PD11 (io), R16 PD12 (io), R17 PD13 (io), T1 PA0_C (io), T2 PA1_C (io), T3 PA5 (io), T4 PC4 (io), T5 PB1 (io), T14 PB12 (io), T15 PB15 (io), T16 PD10 (io), T17 PD9 (io), U2 PA3 (io), U3 PA4 (io), U4 PC5 (io), U5 PB0 (io), U14 PB13 (io), U15 PB14 (io), U16 PD8 (io)
part B pins: A9 PG10 (io), A10 PG9 (io), B4 PE1 (io), B9 PG11 (io), B16 PH15 (io), B17 PH14 (io), C3 PE2 (io), C4 PE0 (io), C9 PG12 (io), D1 PE5 (io), D2 PE4 (io), D3 PE3 (io), D6 PG15 (io), D8 PG14 (io), D9 PG13 (io), D16 PH13 (io), E5 PE6 (io), F15 PG8 (io), F16 PG7 (io), G1 PF2 (io), G3 PF1 (io), G4 PF0 (io), G14 PG5 (io), G15 PG6 (io), H4 PF3 (io), H14 PG4 (io), H15 PG3 (io), H16 PG2 (io), J1 PH1-OSC_OUT (io), J2 PH0-OSC_IN (io), J4 PF5 (io), J5 PF4 (io), K2 PF6 (io), K3 PF7 (io), K4 PF8 (io), L3 PF10 (io), L4 PF9 (io), N2 PH2 (io), N9 PE10 (io), P2 PH3 (io), P3 PH4 (io), P4 PH5 (io), P7 PF13 (io), P8 PF14 (io), P9 PE9 (io), P10 PE11 (io), P13 PH10 (io), P14 PH11 (io), R7 PF12 (io), R9 PF15 (io), R10 PE12 (io), R11 PE15 (io), R13 PH9 (io), R14 PH12 (io), T7 PF11 (io), T8 PG0 (io), T9 PE8 (io), T10 PE13 (io), T11 PH6 (io), T13 PH8 (io), U8 PG1 (io), U9 PE7 (io), U10 PE14 (io), U13 PH7 (io)
part C pins: A2 PI6 (io), A3 PI5 (io), A4 PI4 (io), A8 PK5 (io), A15 PI1 (io), A16 PI0 (io), B3 PI7 (io), B8 PK4 (io), B10 PJ15 (io), B15 PI2 (io), C7 PK6 (io), C8 PK3 (io), C14 PI3 (io), D7 PK7 (io), D10 PJ14 (io), D11 PJ12 (io), E2 PI9 (io), E4 PI8 (io), E7 PDR_ON (io), E8 BOOT0 (in), E10 PJ13 (io), F3 PI10 (io), F4 PI11 (io), H1 PI12 (io), H2 PI13 (io), H3 PI14 (io), H17 PK2 (io), J14 PK0 (io), J15 PK1 (io), K1 NRST (io), K14 PJ11 (io), L14 PJ10 (io), M14 PJ9 (io), N6 PJ0 (io), N13 PJ8 (io), N14 PJ7 (io), N15 PJ6 (io), P5 PI15 (io), P6 PJ1 (io), R12 PJ5 (io), T6 PJ2 (io), U6 PJ3 (io), U7 PJ4 (io)
part D pins: A1 VSS (power), A6 VDDLDO (power), A7 VCAP (power), A17 VSS (power), B1 VBAT (power), B2 VSS (power), B6 VSS (power), C10 VSS (power), C13 VSS (power), C16 VSS (power), C17 VDDLDO (power), D17 VCAP (power), E1 VLXSMPS (power), E6 VDD (power), E9 VDD (power), E11 VDD (power), F1 VDDSMPS (power), F2 VSSSMPS (power), F5 VDD (power), F17 VDD33USB (power), G2 VFBSMPS (power), G5 VDD (power), G7 VSS (power), G8 VSS (power), G9 VSS (power), G10 VSS (power), G11 VSS (power), G13 VDD (power), G16 VSS (power), G17 VDD50USB (power), H5 VDD (power), H7 VSS (power), H8 VSS (power), H9 VSS (power), H10 VSS (power), H11 VSS (power), H13 VDD (power), J3 VSS (power), J7 VSS (power), J8 VSS (power), J9 VSS (power), J10 VSS (power), J11 VSS (power), J13 VDD (power), J16 VSS (power), J17 VSS (power), K5 VDD (power), K7 VSS (power), K8 VSS (power), K9 VSS (power), K10 VSS (power), K11 VSS (power), K13 VDD (power), K15 VSS (power), K16 NC, K17 NC, L1 VDDA (power), L5 VDD (power), L7 VSS (power), L8 VSS (power), L9 VSS (power), L10 VSS (power), L11 VSS (power), L13 VDD (power), L15 VSS (power), L16 NC, L17 NC, M1 VREF+ (power), M5 VDD (power), M13 VDD (power), M15 VSS (power), M16 NC, M17 NC, N1 VREF- (power), N7 VDD (power), N8 VDD (power), N10 VDD (power), N11 VDD (power), N12 VDD (power), N16 VSS (power), N17 NC, P1 VSSA (power), P17 VDD (power), R4 VSS (power), R8 VSS (power), T12 VSS (power), U1 VSS (power), U11 VCAP (power), U12 VDDLDO (power), U17 VSS (power)
part A text: 1 of 4
part B text: 2 of 4
part C text: 3 of 4
part D text: 4 of 4

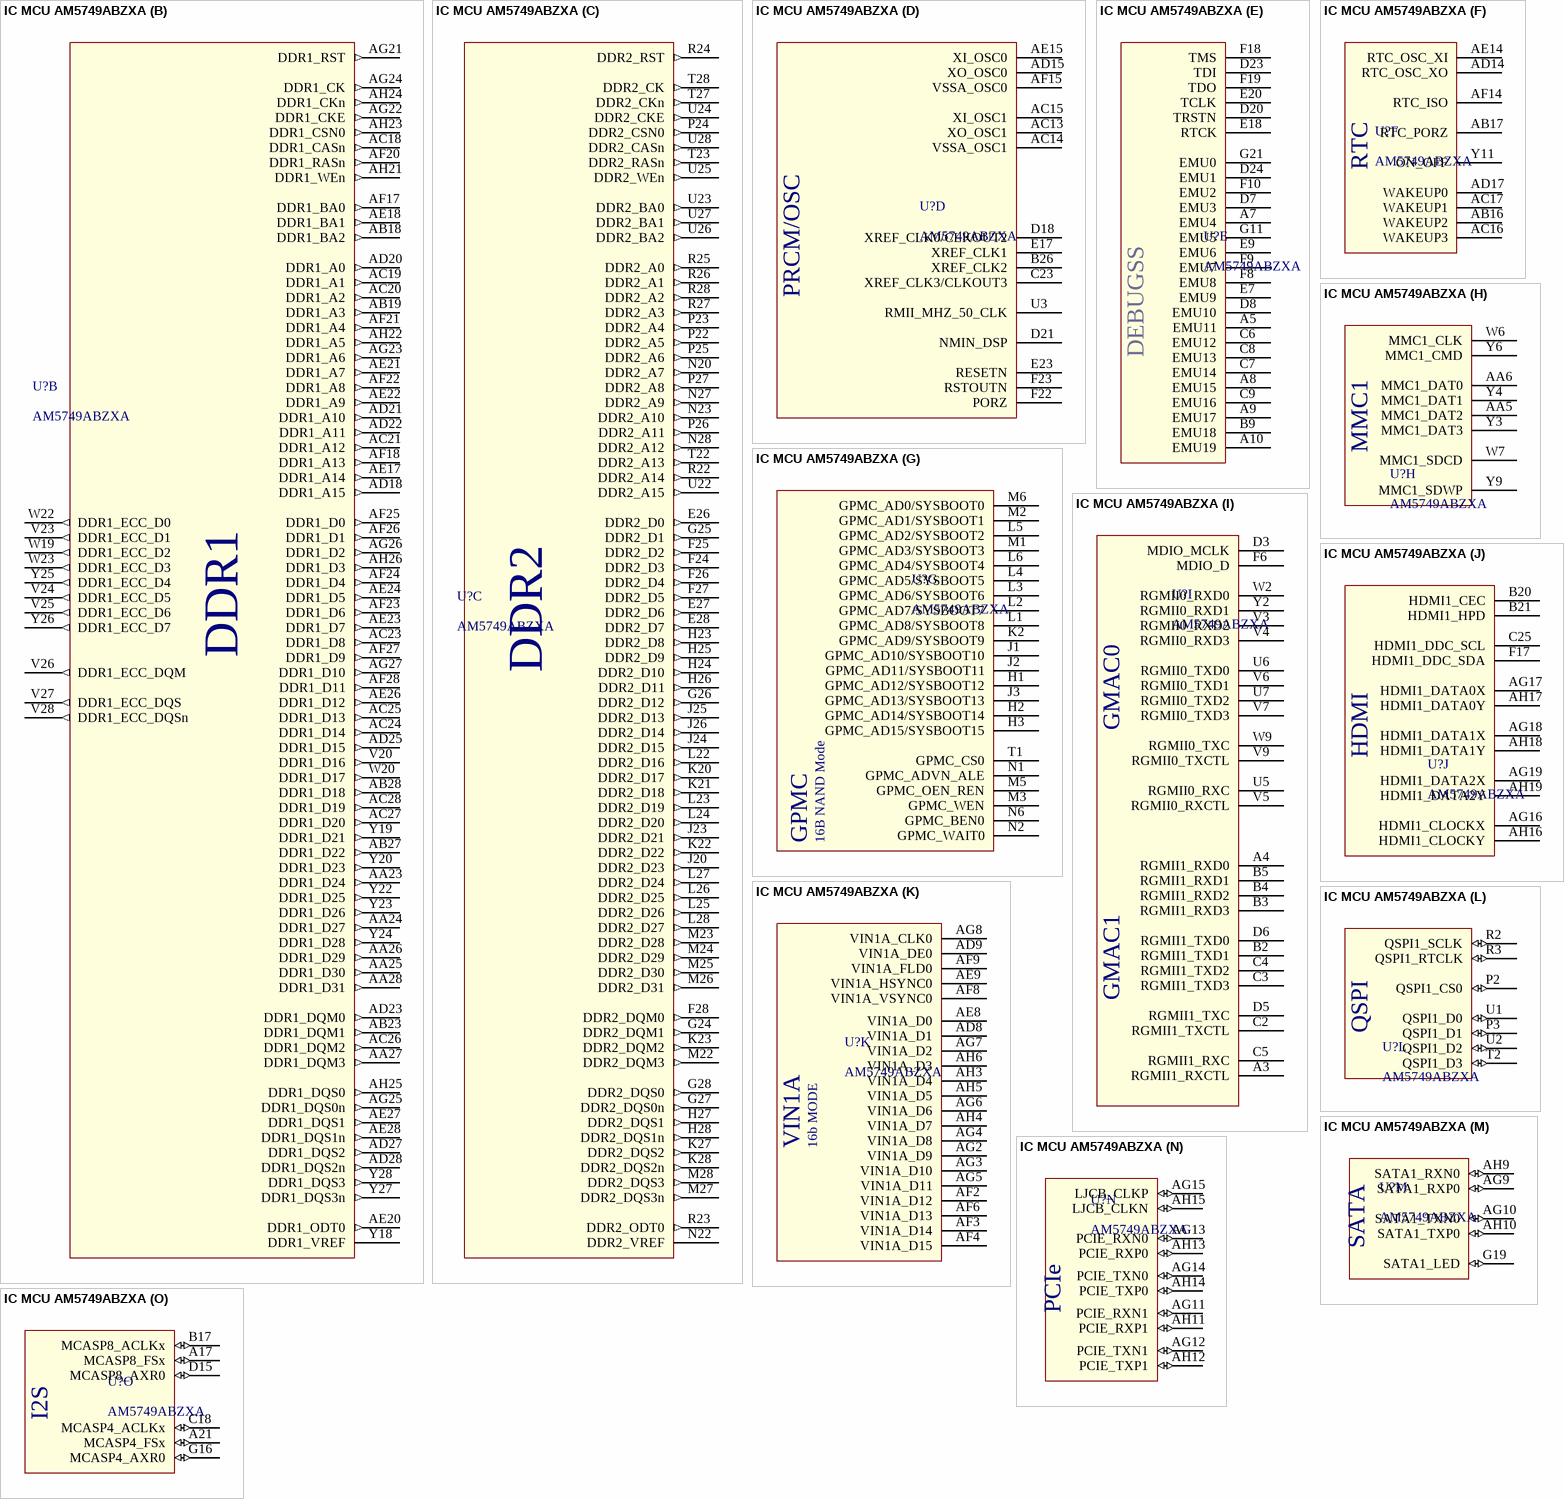
[diagram p4: symbol IC MCU AM5749ABZXA]

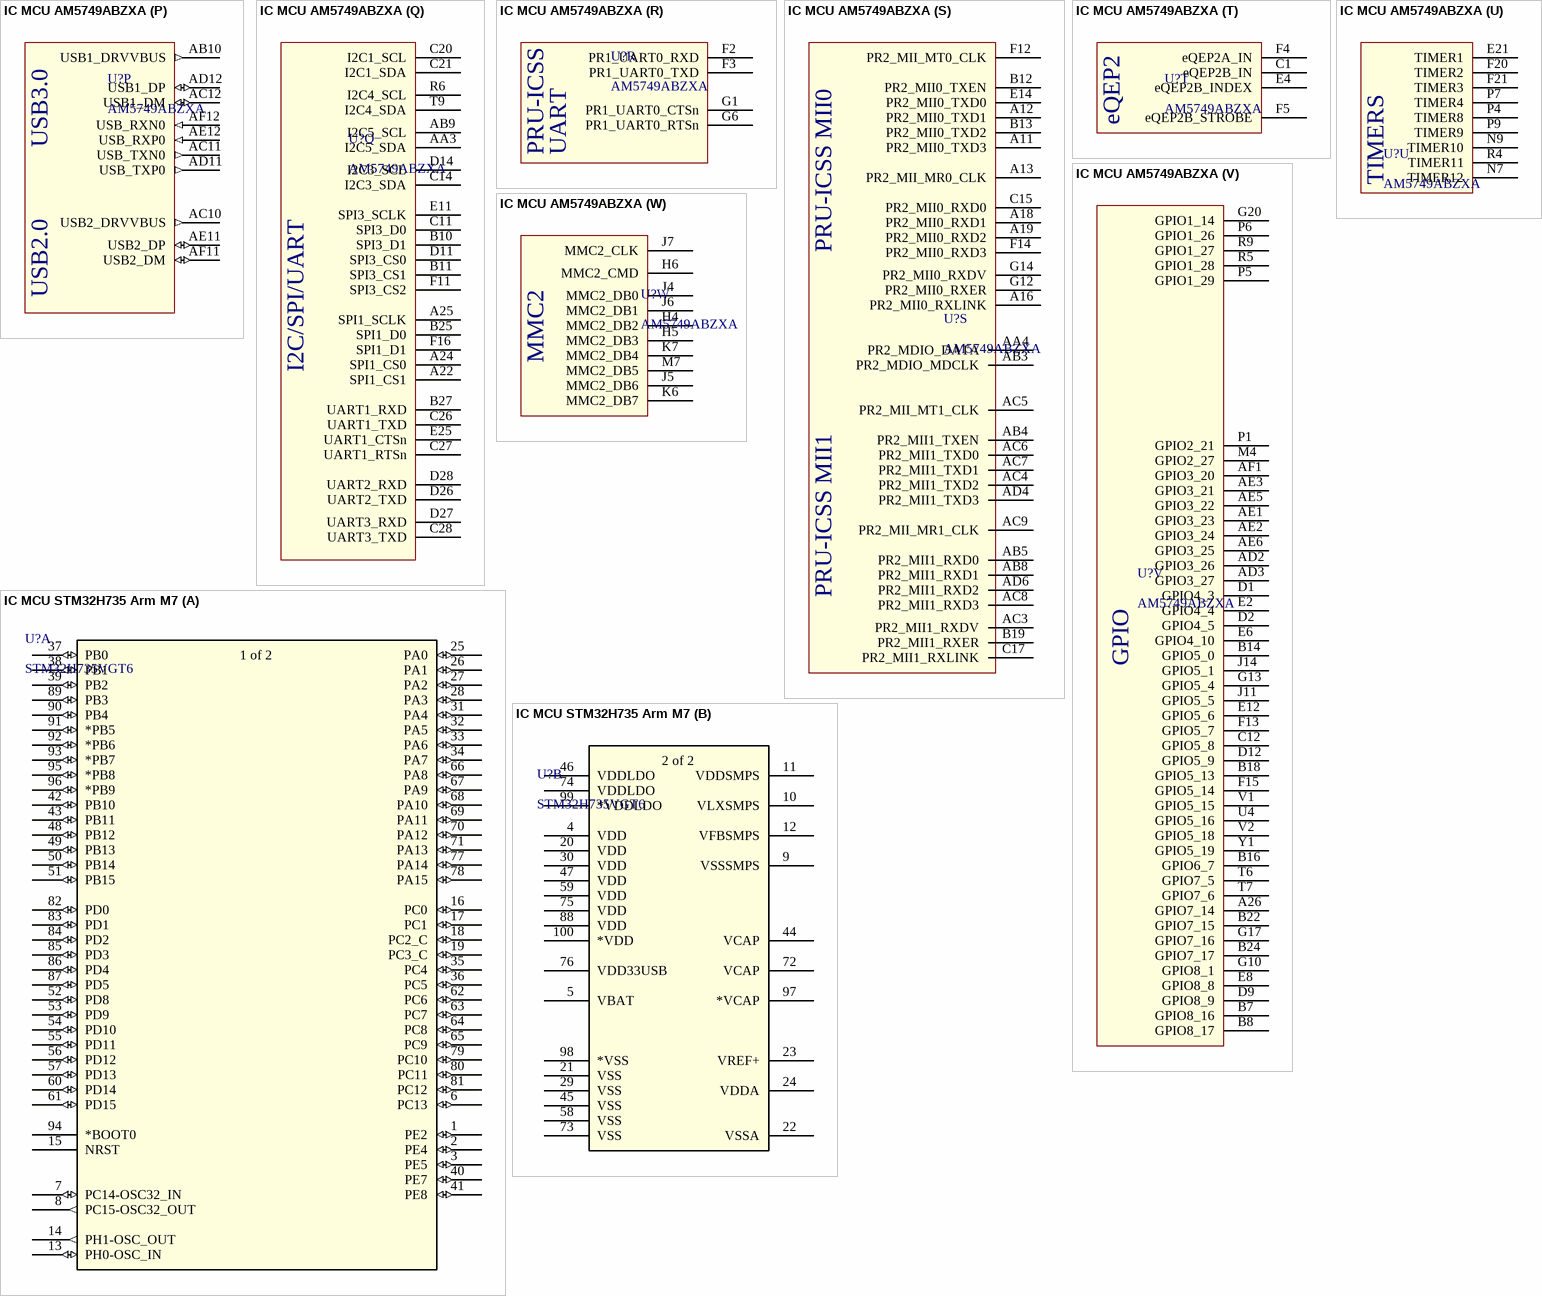
[diagram p5: symbols IC MCU AM5749ABZXA to IC MCU STM32H735 Arm M7]

## IC MCU AM5749ABZXA
designator U?, comment AM5749ABZXA
IC MCU AM5749ABZXA; 1. Manufacturer: Texas Instruments; 2. Manufacturer Part Number: AM5749ABZXA; 3. Date Modified: 20200731
footprint FCBGA (ABZ)
part A pins: A1 VSS (power), A2 VSS (power), A6 VSS (power), A14 VSS (power), A23 VSS (power), A27 RSVA27 (power), A28 VSS (power), AA7 VDDS_MLBP (power), AA8 VSS (power), AA9 VSS (power), AA10 VSS (power), AA11 VSSA_USB (power), AA12 VDDA33V_USB1 (power), AA13 VDDA_USB1 (power), AA14 VSS (power), AA15 VSS (power), AA16 VDDA_PCIE1 (power), AA17 VDDA_PCIE0 (power), AA18 VDDS18V_DDR1 (power), AA19 VDDS18V_DDR1 (power), AA20 VSS (power), AA21 VDDS_DDR1 (power), AA22 VDDS_DDR1 (power), AB6 VDDSHV7 (power), AB7 VDDSHV7 (power), AB11 VSSA_USB (power), AB12 VDDA_USB2 (power), AB13 VDDA_RTC (power), AB14 VSS (power), AB15 VDD_RTC (power), AB20 VSS (power), AB21 VDDS_DDR1 (power), AB22 VDDS_DDR1 (power), AB24 VDDS_DDR1 (power), AB25 VDDS_DDR1 (power), AC22 VDDS_DDR1 (power), AD1 VSS (power), AD5 VDDSHV6 (power), AD7 VDDSHV6 (power), AD10 VSSA_USB3 (power), AD13 VSSA_PCIE (power), AD16 VDDA_OSC (power), AD19 VSSA_HDMI (power), AD24 VSS (power), AD26 VDDS_DDR1 (power), AE7 VDDSHV6 (power), AE10 VSS_SATA (power), AE13 VSSA_PCIE (power), AE16 VDDA_OSC (power), AE19 VSSA_HDMI (power), AF5 VDDSHV6 (power), AG1 VSS (power), AG20 VDDS_DDR1 (power), AG28 VDDS_DDR1 (power), AH1 VSS (power), AH2 VSS (power), AH8 VSS (power), AH20 VSS (power), AH27 VDDS_DDR1 (power), AH28 VSS (power), B1 VSS (power), B6 VDDSHV2 (power), B23 VDDSHV3 (power), B28 RSVB28 (power), C24 VDDSHV4 (power), D10 VDDSHV2 (power), D13 VSS (power), D16 VDDSHV3 (power), D19 VSS (power), D22 VDDSHV3 (power), E3 VDDSHV1 (power), E5 VDDSHV1 (power), E10 VDDSHV2 (power), E13 VSS (power), E16 VDDSHV3 (power), E19 VSS (power), E22 VDDSHV3 (power), E24 VDDS_DDR2 (power), F1 VSS (power), F7 VSS (power), G4 VDDSHV1 (power), G5 VDDSHV1 (power), G7 VSS (power), G8 VSS (power), G9 VSS (power), G15 VDDSHV3 (power), G18 VDDS18V (power), G22 VDDS_DDR2 (power), G23 VDDS_DDR2 (power), H8 VDDSHV1 (power), H9 VDDSHV1 (power), H10 VDDSHV2 (power), H11 VDDSHV2 (power), H12 VSS (power), H13 VDD (power), H14 VDD (power), H15 VDDSHV3 (power), H16 VDDSHV3 (power), H17 VDDS18V (power), H18 VDDSHV3 (power), H19 VDDSHV3 (power), H20 VDDS_DDR2 (power), H21 VDDS_DDR2 (power), H22 VDDS_DDR2 (power), J8 VDDSHV11 (power), J9 CAP_VDDRAM_DSPEVE2 (power), J10 CAP_VDDRAM_DSPEVE1 (power), J12 VSS (power), J13 VDD_DSPEVE (power), J15 VSS (power), J16 CAP_VBBLDO_MPU (power), J17 VDD (power), J18 VDD (power), J19 CAP_VDDRAM_CORE2 (power), J21 VDDS18V_DDR2 (power), J22 VDDS18V_DDR2 (power), J27 VDDS_DDR2 (power), J28 VSS (power), K1 VSS (power), K4 VSS (power), K5 VSS (power), K8 VDDSHV11 (power), K9 CAP_VBBLDO_DSPEVE (power), K10 VDD_DSPEVE (power), K11 VDD_DSPEVE (power), K12 VDD_DSPEVE (power), K13 VDD_DSPEVE (power), K14 RSVK14(VPP) (power), K15 VSS (power), K16 CAP_VDDRAM_MPU1 (power), K17 VDD_MPU (power), K18 VDD_MPU (power), K19 CAP_VDDRAM_MPU2 (power), K24 VSS (power), K25 VSS (power), L7 VDD (power), L8 VDD (power), L9 CAP_VDDRAM_CORE1 (power), L10 VDD_DSPEVE (power), L11 VDD_DSPEVE (power), L12 VDD_DSPEVE (power), L13 VSS (power), L14 VSS (power), L15 VDD_MPU (power), L16 VDD_MPU (power), L17 VDD_MPU (power), L18 VDD_MPU (power), L19 VDD_MPU (power), L20 VDDS_DDR2 (power), L21 VDDS_DDR2 (power), M8 VDDS18V (power), M9 VDDS18V (power), M10 VDD_DSPEVE (power), M11 VDD_DSPEVE (power), M12 VDD_DSPEVE (power), M13 VDD_DSPEVE (power), M14 VDDA_ABE_PER (power), M15 VDD_MPU (power), M16 VDD_MPU (power), M17 VDD_MPU (power), M18 VDD_MPU (power), M19 VSS (power), M20 VDDS_DDR2 (power), M21 VDDS_DDR2 (power), N4 VDDSHV10 (power), N5 VDDSHV10 (power), N8 VDDS18V (power), N10 VDD (power), N11 VDDA_DEBUG (power), N12 VDDA_DSP_EVE (power), N13 VDD (power), N14 VSS (power), N15 VSS (power), N16 VDDA_MPU (power), N17 VDD_MPU (power), N18 VDD_MPU (power), N19 VSS (power), N21 VDDS18V_DDR2 (power), N24 VSS (power), N25 VSS (power), P8 VDDS18V (power), P10 VDDSHV10 (power), P11 VDD (power), P12 VDD (power), P13 VDD (power), P14 VDDA_VIDEO (power), P15 VDDA_GMAC_CORE (power), P16 VDDA_DDR (power), P17 VDD_MPU (power), P18 VDD_MPU (power), P19 CAP_VDDRAM_CORE4 (power), P20 VDDS18V_DDR2 (power), P21 VDDS18V_DDR2 (power), P28 VSS (power), R1 VSS (power), R7 VDDSHV10 (power), R8 VDDS18V (power), R10 VDDSHV10 (power), R11 VDD (power), R12 VSS (power), R13 VSS (power), R14 VDDA_GPU (power), R15 VSS (power), R16 VDD (power), R17 VDDA_IVA (power), R18 VDD_MPU (power), R19 VDD (power), R20 CAP_VBBLDO_IVA (power), R21 VSS (power), T4 VDDSHV10 (power), T5 VDDSHV10 (power), T8 VDDS18V (power), T10 VSS (power), T11 VSS (power), T12 VSS (power), T13 VDD (power), T14 VSS (power), T15 VSS (power), T16 VDD (power), T17 VSS (power), T18 VSS (power), T19 VDD (power), T20 CAP_VDDRAM_IVA (power), T21 VSS (power), T24 VDDS_DDR2 (power), T25 VDDS_DDR2 (power), U8 VDD (power), U9 VDD (power), U10 VDDSHV9 (power), U11 VDD_GPU (power), U12 VDD_GPU (power), U13 VDD (power), U14 VSSA_VIDEO (power), U15 VSS (power), U16 VDD (power), U17 VSS (power), U18 VDD_IVA (power), U19 VDD_IVA (power), U20 VSS (power), U21 VSS (power), V8 VDD (power), V10 VDD_GPU (power), V11 VDD_GPU (power), V12 VDDSHV5 (power), V13 VDD_SATA (power), V14 VDD_GPU (power), V15 VSS (power), V16 VDD (power), V17 VSS (power), V18 VDD_IVA (power), V19 VDD_IVA (power), V21 VDDS18V (power), V22 VDDS18V (power), W1 VSS (power), W4 VDDSHV9 (power), W5 VDDSHV9 (power), W8 VDDSHV8 (power), W10 VDD_GPU (power), W11 VDD_GPU (power), W12 VDDA_USB3 (power), W13 VDD_GPU (power), W14 VDDA_PCIE (power), W15 VSS (power), W16 VDDS_DDR1 (power), W17 VDDS18V (power), W18 VDDS18V (power), W21 VDDS18V_DDR1 (power), W24 VSS (power), W25 VSS (power), W27 VDDS_DDR1 (power), W28 VSS (power), Y5 RSVY5 (power), Y7 VDDS_MLBP (power), Y8 VDDSHV8 (power), Y10 RSVY10 (power), Y12 VDDA33V_USB2 (power), Y13 CAP_VDDRAM_GPU (power), Y14 CAP_VBBLDO_GPU (power), Y15 CAP_VDDRAM_CORE3 (power), Y16 CAP_VDDRAM_CORE5 (power), Y17 VDDA_HDMI (power), Y21 VDDS18V_DDR1 (power)
part B pins: AA23 DDR1_D24 (out), AA24 DDR1_D27 (out), AA25 DDR1_D30 (out), AA26 DDR1_D29 (out), AA27 DDR1_DQM3 (out), AA28 DDR1_D31 (out), AB18 DDR1_BA2 (out), AB19 DDR1_A3 (out), AB23 DDR1_DQM1 (out), AB27 DDR1_D22 (out), AB28 DDR1_D18 (out), AC18 DDR1_CASn (out), AC19 DDR1_A1 (out), AC20 DDR1_A2 (out), AC21 DDR1_A12 (out), AC23 DDR1_D8 (out), AC24 DDR1_D14 (out), AC25 DDR1_D13 (out), AC26 DDR1_DQM2 (out), AC27 DDR1_D20 (out), AC28 DDR1_D19 (out), AD18 DDR1_A15 (out), AD20 DDR1_A0 (out), AD21 DDR1_A10 (out), AD22 DDR1_A11 (out), AD23 DDR1_DQM0 (out), AD25 DDR1_D15 (out), AD27 DDR1_DQS2 (out), AD28 DDR1_DQS2n (out), AE17 DDR1_A14 (out), AE18 DDR1_BA1 (out), AE20 DDR1_ODT0 (out), AE21 DDR1_A7 (out), AE22 DDR1_A9 (out), AE23 DDR1_D7 (out), AE24 DDR1_D5 (out), AE26 DDR1_D12 (out), AE27 DDR1_DQS1 (out), AE28 DDR1_DQS1n (out), AF17 DDR1_BA0 (out), AF18 DDR1_A13 (out), AF20 DDR1_RASn (out), AF21 DDR1_A4 (out), AF22 DDR1_A8 (out), AF23 DDR1_D6 (out), AF24 DDR1_D4 (out), AF25 DDR1_D0 (out), AF26 DDR1_D1 (out), AF27 DDR1_D9 (out), AF28 DDR1_D11 (out), AG21 DDR1_RST (out), AG22 DDR1_CKE (out), AG23 DDR1_A6 (out), AG24 DDR1_CK (out), AG25 DDR1_DQS0n (out), AG26 DDR1_D2 (out), AG27 DDR1_D10 (out), AH21 DDR1_WEn (out), AH22 DDR1_A5 (out), AH23 DDR1_CSN0 (out), AH24 DDR1_CKn (out), AH25 DDR1_DQS0 (out), AH26 DDR1_D3 (out), V20 DDR1_D16 (out), V23 DDR1_ECC_D1 (out), V24 DDR1_ECC_D5 (out), V25 DDR1_ECC_D6 (out), V26 DDR1_ECC_DQM (out), V27 DDR1_ECC_DQS (out), V28 DDR1_ECC_DQSn (out), W19 DDR1_ECC_D2 (out), W20 DDR1_D17 (out), W22 DDR1_ECC_D0 (out), W23 DDR1_ECC_D3 (out), Y18 DDR1_VREF, Y19 DDR1_D21 (out), Y20 DDR1_D23 (out), Y22 DDR1_D25 (out), Y23 DDR1_D26 (out), Y24 DDR1_D28 (out), Y25 DDR1_ECC_D4 (out), Y26 DDR1_ECC_D7 (out), Y27 DDR1_DQS3n (out), Y28 DDR1_DQS3 (out)
part C pins: E26 DDR2_D0 (out), E27 DDR2_D6 (out), E28 DDR2_D7 (out), F24 DDR2_D3 (out), F25 DDR2_D2 (out), F26 DDR2_D4 (out), F27 DDR2_D5 (out), F28 DDR2_DQM0 (out), G24 DDR2_DQM1 (out), G25 DDR2_D1 (out), G26 DDR2_D12 (out), G27 DDR2_DQS0n (out), G28 DDR2_DQS0 (out), H23 DDR2_D8 (out), H24 DDR2_D10 (out), H25 DDR2_D9 (out), H26 DDR2_D11 (out), H27 DDR2_DQS1 (out), H28 DDR2_DQS1n (out), J20 DDR2_D23 (out), J23 DDR2_D21 (out), J24 DDR2_D15 (out), J25 DDR2_D13 (out), J26 DDR2_D14 (out), K20 DDR2_D17 (out), K21 DDR2_D18 (out), K22 DDR2_D22 (out), K23 DDR2_DQM2 (out), K27 DDR2_DQS2 (out), K28 DDR2_DQS2n (out), L22 DDR2_D16 (out), L23 DDR2_D19 (out), L24 DDR2_D20 (out), L25 DDR2_D26 (out), L26 DDR2_D25 (out), L27 DDR2_D24 (out), L28 DDR2_D27 (out), M22 DDR2_DQM3 (out), M23 DDR2_D28 (out), M24 DDR2_D29 (out), M25 DDR2_D30 (out), M26 DDR2_D31 (out), M27 DDR2_DQS3n (out), M28 DDR2_DQS3 (out), N20 DDR2_A7 (out), N22 DDR2_VREF, N23 DDR2_A10 (out), N27 DDR2_A9 (out), N28 DDR2_A12 (out), P22 DDR2_A5 (out), P23 DDR2_A4 (out), P24 DDR2_CSN0 (out), P25 DDR2_A6 (out), P26 DDR2_A11 (out), P27 DDR2_A8 (out), R22 DDR2_A14 (out), R23 DDR2_ODT0 (out), R24 DDR2_RST (out), R25 DDR2_A0 (out), R26 DDR2_A1 (out), R27 DDR2_A3 (out), R28 DDR2_A2 (out), T22 DDR2_A13 (out), T23 DDR2_RASn (out), T27 DDR2_CKn (out), T28 DDR2_CK (out), U22 DDR2_A15 (out), U23 DDR2_BA0 (out), U24 DDR2_CKE (out), U25 DDR2_WEn (out), U26 DDR2_BA2 (out), U27 DDR2_BA1 (out), U28 DDR2_CASn (out)
part D pins: AC13 XO_OSC1, AC14 VSSA_OSC1, AC15 XI_OSC1, AD15 XO_OSC0, AE15 XI_OSC0, AF15 VSSA_OSC0, B26 XREF_CLK2, C23 XREF_CLK3/CLKOUT3, D18 XREF_CLK0/CLKOUT2, D21 NMIN_DSP, E17 XREF_CLK1, E23 RESETN, F22 PORZ, F23 RSTOUTN, U3 RMII_MHZ_50_CLK
part E pins: A5 EMU11, A7 EMU4, A8 EMU15, A9 EMU17, A10 EMU19, B9 EMU18, C6 EMU12, C7 EMU14, C8 EMU13, C9 EMU16, D7 EMU3, D8 EMU10, D20 TRSTN, D23 TDI, D24 EMU1, E7 EMU9, E9 EMU6, E18 RTCK, E20 TCLK, F8 EMU8, F9 EMU7, F10 EMU2, F18 TMS, F19 TDO, G11 EMU5, G21 EMU0
part F pins: AB16 WAKEUP2, AB17 RTC_PORZ, AC16 WAKEUP3, AC17 WAKEUP1, AD14 RTC_OSC_XO, AD17 WAKEUP0, AE14 RTC_OSC_XI, AF14 RTC_ISO, Y11 ON_OFF
part G pins: H1 GPMC_AD12/SYSBOOT12, H2 GPMC_AD14/SYSBOOT14, H3 GPMC_AD15/SYSBOOT15, J1 GPMC_AD10/SYSBOOT10, J2 GPMC_AD11/SYSBOOT11, J3 GPMC_AD13/SYSBOOT13, K2 GPMC_AD9/SYSBOOT9, L1 GPMC_AD8/SYSBOOT8, L2 GPMC_AD7/SYSBOOT7, L3 GPMC_AD6/SYSBOOT6, L4 GPMC_AD5/SYSBOOT5, L5 GPMC_AD2/SYSBOOT2, L6 GPMC_AD4/SYSBOOT4, M1 GPMC_AD3/SYSBOOT3, M2 GPMC_AD1/SYSBOOT1, M3 GPMC_WEN, M5 GPMC_OEN_REN, M6 GPMC_AD0/SYSBOOT0, N1 GPMC_ADVN_ALE, N2 GPMC_WAIT0, N6 GPMC_BEN0, T1 GPMC_CS0
part H pins: AA5 MMC1_DAT2, AA6 MMC1_DAT0, W6 MMC1_CLK, W7 MMC1_SDCD, Y3 MMC1_DAT3, Y4 MMC1_DAT1, Y6 MMC1_CMD, Y9 MMC1_SDWP
part I pins: A3 RGMII1_RXCTL, A4 RGMII1_RXD0, B2 RGMII1_TXD1, B3 RGMII1_RXD3, B4 RGMII1_RXD2, B5 RGMII1_RXD1, C2 RGMII1_TXCTL, C3 RGMII1_TXD3, C4 RGMII1_TXD2, C5 RGMII1_RXC, D3 MDIO_MCLK, D5 RGMII1_TXC, D6 RGMII1_TXD0, F6 MDIO_D, U5 RGMII0_RXC, U6 RGMII0_TXD0, U7 RGMII0_TXD2, V3 RGMII0_RXD2, V4 RGMII0_RXD3, V5 RGMII0_RXCTL, V6 RGMII0_TXD1, V7 RGMII0_TXD3, V9 RGMII0_TXCTL, W2 RGMII0_RXD0, W9 RGMII0_TXC, Y2 RGMII0_RXD1
part J pins: AG16 HDMI1_CLOCKX, AG17 HDMI1_DATA0X, AG18 HDMI1_DATA1X, AG19 HDMI1_DATA2X, AH16 HDMI1_CLOCKY, AH17 HDMI1_DATA0Y, AH18 HDMI1_DATA1Y, AH19 HDMI1_DATA2Y, B20 HDMI1_CEC, B21 HDMI1_HPD, C25 HDMI1_DDC_SCL, F17 HDMI1_DDC_SDA
part K pins: AD8 VIN1A_D1, AD9 VIN1A_DE0, AE8 VIN1A_D0, AE9 VIN1A_HSYNC0, AF2 VIN1A_D12, AF3 VIN1A_D14, AF4 VIN1A_D15, AF6 VIN1A_D13, AF8 VIN1A_VSYNC0, AF9 VIN1A_FLD0, AG2 VIN1A_D9, AG3 VIN1A_D10, AG4 VIN1A_D8, AG5 VIN1A_D11, AG6 VIN1A_D6, AG7 VIN1A_D2, AG8 VIN1A_CLK0, AH3 VIN1A_D4, AH4 VIN1A_D7, AH5 VIN1A_D5, AH6 VIN1A_D3
part L pins: P2 QSPI1_CS0 (io), P3 QSPI1_D1 (io), R2 QSPI1_SCLK (io), R3 QSPI1_RTCLK (io), T2 QSPI1_D3 (io), U1 QSPI1_D0 (io), U2 QSPI1_D2 (io)
part M pins: AG9 SATA1_RXP0 (io), AG10 SATA1_TXN0 (io), AH9 SATA1_RXN0 (io), AH10 SATA1_TXP0 (io), G19 SATA1_LED (io)
part N pins: AG11 PCIE_RXN1 (io), AG12 PCIE_TXN1 (io), AG13 PCIE_RXN0 (io), AG14 PCIE_TXN0 (io), AG15 LJCB_CLKP (io), AH11 PCIE_RXP1 (io), AH12 PCIE_TXP1 (io), AH13 PCIE_RXP0 (io), AH14 PCIE_TXP0 (io), AH15 LJCB_CLKN (io)
part O pins: A17 MCASP8_FSx (io), A21 MCASP4_FSx (io), B17 MCASP8_ACLKx (io), C18 MCASP4_ACLKx (io), D15 MCASP8_AXR0 (io), G16 MCASP4_AXR0 (io)
part P pins: AB10 USB1_DRVVBUS (out), AC10 USB2_DRVVBUS (out), AC11 USB_TXN0 (out), AC12 USB1_DM (io), AD11 USB_TXP0 (out), AD12 USB1_DP (io), AE11 USB2_DP (io), AE12 USB_RXP0 (in), AF11 USB2_DM (io), AF12 USB_RXN0 (in)
part Q pins: A22 SPI1_CS1, A24 SPI1_CS0, A25 SPI1_SCLK, AA3 I2C5_SDA, AB9 I2C5_SCL, B10 SPI3_D1, B11 SPI3_CS1, B25 SPI1_D0, B27 UART1_RXD, C11 SPI3_D0, C14 I2C3_SDA, C20 I2C1_SCL, C21 I2C1_SDA, C26 UART1_TXD, C27 UART1_RTSn, C28 UART3_TXD, D11 SPI3_CS0, D14 I2C3_SCL, D26 UART2_TXD, D27 UART3_RXD, D28 UART2_RXD, E11 SPI3_SCLK, E25 UART1_CTSn, F11 SPI3_CS2, F16 SPI1_D1, R6 I2C4_SCL, T9 I2C4_SDA
part R pins: F2 PR1_UART0_RXD, F3 PR1_UART0_TXD, G1 PR1_UART0_CTSn, G6 PR1_UART0_RTSn
part S pins: A11 PR2_MII0_TXD3, A12 PR2_MII0_TXD1, A13 PR2_MII_MR0_CLK, A16 PR2_MII0_RXLINK, A18 PR2_MII0_RXD1, A19 PR2_MII0_RXD2, AA4 PR2_MDIO_DATA, AB3 PR2_MDIO_MDCLK, AB4 PR2_MII1_TXEN, AB5 PR2_MII1_RXD0, AB8 PR2_MII1_RXD1, AC3 PR2_MII1_RXDV, AC4 PR2_MII1_TXD2, AC5 PR2_MII_MT1_CLK, AC6 PR2_MII1_TXD0, AC7 PR2_MII1_TXD1, AC8 PR2_MII1_RXD3, AC9 PR2_MII_MR1_CLK, AD4 PR2_MII1_TXD3, AD6 PR2_MII1_RXD2, B12 PR2_MII0_TXEN, B13 PR2_MII0_TXD2, B19 PR2_MII1_RXER, C15 PR2_MII0_RXD0, C17 PR2_MII1_RXLINK, E14 PR2_MII0_TXD0, F12 PR2_MII_MT0_CLK, F14 PR2_MII0_RXD3, G12 PR2_MII0_RXER, G14 PR2_MII0_RXDV
part T pins: C1 eQEP2B_IN, E4 eQEP2B_INDEX, F4 eQEP2A_IN, F5 eQEP2B_STROBE
part U pins: E21 TIMER1, F20 TIMER2, F21 TIMER3, N7 TIMER12, N9 TIMER10, P4 TIMER8, P7 TIMER4, P9 TIMER9, R4 TIMER11
part V pins: A26 GPIO7_14, AD2 GPIO3_26, AD3 GPIO3_27, AE1 GPIO3_23, AE2 GPIO3_24, AE3 GPIO3_21, AE5 GPIO3_22, AE6 GPIO3_25, AF1 GPIO3_20, B7 GPIO8_16, B8 GPIO8_17, B14 GPIO5_0, B16 GPIO6_7, B18 GPIO5_13, B22 GPIO7_15, B24 GPIO7_17, C12 GPIO5_8, D1 GPIO4_3, D2 GPIO4_5, D9 GPIO8_9, D12 GPIO5_9, E2 GPIO4_4, E6 GPIO4_10, E8 GPIO8_8, E12 GPIO5_6, F13 GPIO5_7, F15 GPIO5_14, G10 GPIO8_1, G13 GPIO5_4, G17 GPIO7_16, G20 GPIO1_14, J11 GPIO5_5, J14 GPIO5_1, M4 GPIO2_27, P1 GPIO2_21, P5 GPIO1_29, P6 GPIO1_26, R5 GPIO1_28, R9 GPIO1_27, T6 GPIO7_5, T7 GPIO7_6, U4 GPIO5_16, V1 GPIO5_15, V2 GPIO5_18, Y1 GPIO5_19
part W pins: H4 MMC2_DB2, H5 MMC2_DB3, H6 MMC2_CMD, J4 MMC2_DB0, J5 MMC2_DB6, J6 MMC2_DB1, J7 MMC2_CLK, K6 MMC2_DB7, K7 MMC2_DB4, M7 MMC2_DB5
part A text: VIN2 PWR Group; VOUT PWR Group; General PWR Group; MMC4 PWR Group; RTC PWR Group; Power; VIN1 PWR Group; WIFI PWR Group; MMC1 PWR Group; RGMII PWR Group; GPMC PWR Group
part B text: DDR1
part C text: DDR2
part D text: PRCM/OSC
part E text: DEBUGSS
part F text: RTC
part G text: GPMC; 16B NAND Mode
part H text: MMC1
part I text: GMAC0; GMAC1
part J text: HDMI
part K text: VIN1A; 16b MODE
part L text: QSPI
part M text: SATA
part N text: PCIe
part O text: I2S
part P text: USB3.0; USB2.0
part Q text: I2C/SPI/UART
part R text: PRU-ICSS; UART
part S text: PRU-ICSS MII0; PRU-ICSS MII1
part T text: eQEP2
part U text: TIMERS
part V text: GPIO
part W text: MMC2

## IC MCU STM32H735 Arm M7
designator U?, comment STM32H735VGT6
ARM® Cortex®-M7 STM32H7 Microcontroller IC 32-Bit 550MHz 1MB (1M x 8) FLASH 100-LQFP (14x14); 1. Manufacturer: STMicroelectronics; 2. Manufacturer Part Number: STM32H735VGT6; 3. Date Modified: 20201122
footprint LQFP-100 14x14
part A pins: 1 PE2 (io), 2 PE4 (io), 3 PE5 (io), 6 PC13 (io), 7 PC14-OSC32_IN (io), 8 PC15-OSC32_OUT (out), 13 PH0-OSC_IN (io), 14 PH1-OSC_OUT (out), 15 NRST, 16 PC0 (io), 17 PC1 (io), 18 PC2_C (io), 19 PC3_C (io), 25 PA0 (io), 26 PA1 (io), 27 PA2 (io), 28 PA3 (io), 31 PA4 (io), 32 PA5 (io), 33 PA6 (io), 34 PA7 (io), 35 PC4 (io), 36 PC5 (io), 37 PB0 (io), 38 PB1 (io), 39 PB2 (io), 40 PE7 (io), 41 PE8 (io), 42 PB10 (io), 43 PB11 (io), 48 PB12 (io), 49 PB13 (io), 50 PB14 (io), 51 PB15 (io), 52 PD8 (io), 53 PD9 (io), 54 PD10 (io), 55 PD11 (io), 56 PD12 (io), 57 PD13 (io), 60 PD14 (io), 61 PD15 (io), 62 PC6 (io), 63 PC7 (io), 64 PC8 (io), 65 PC9 (io), 66 PA8 (io), 67 PA9 (io), 68 PA10 (io), 69 PA11 (io), 70 PA12 (io), 71 PA13 (io), 77 PA14 (io), 78 PA15 (io), 79 PC10 (io), 80 PC11 (io), 81 PC12 (io), 82 PD0 (io), 83 PD1 (io), 84 PD2 (io), 85 PD3 (io), 86 PD4 (io), 87 PD5 (io), 89 PB3 (io), 90 PB4 (io), 91 *PB5 (io), 92 *PB6 (io), 93 *PB7 (io), 94 *BOOT0, 95 *PB8 (io), 96 *PB9 (io)
part B pins: 4 VDD (power), 5 VBAT, 9 VSSSMPS, 10 VLXSMPS, 11 VDDSMPS (power), 12 VFBSMPS, 20 VDD (power), 21 VSS, 22 VSSA, 23 VREF+ (power), 24 VDDA (power), 29 VSS, 30 VDD (power), 44 VCAP, 45 VSS, 46 VDDLDO (power), 47 VDD (power), 58 VSS, 59 VDD (power), 72 VCAP, 73 VSS, 74 VDDLDO (power), 75 VDD (power), 76 VDD33USB, 88 VDD (power), 97 *VCAP, 98 *VSS, 99 *VDDLDO (power), 100 *VDD (power)
part A text: 1 of 2
part B text: 2 of 2

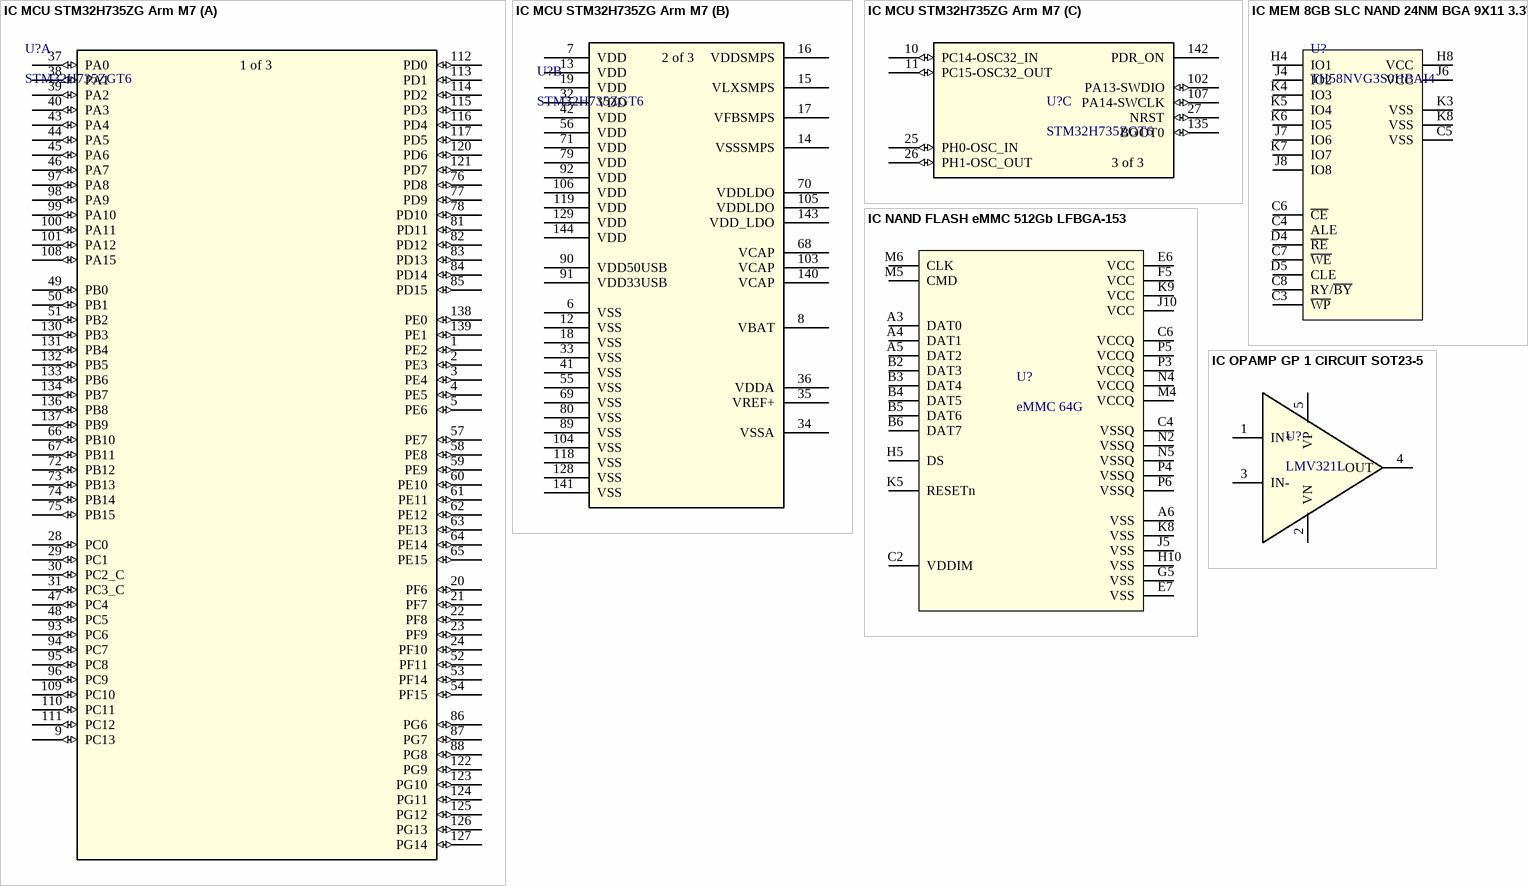
[diagram p6: symbols IC MCU STM32H735ZG Arm M7 to IC OPAMP GP 1 CIRCUIT SOT23-5]

## IC MCU STM32H735ZG Arm M7
designator U?, comment STM32H735ZGT6
ARM® Cortex®-M7 STM32H7 Microcontroller IC 32-Bit 550MHz 1MB (1M x 8) FLASH 144 LQFP 20x20; 1. Manufacturer: STMicroelectronics; 2. Manufacturer Part Number: STM32H735ZGT6; 3. Date Modified: 20201126
footprint LQFP-144 20x20 (STM32H735xG)
part A pins: 1 PE2 (io), 2 PE3 (io), 3 PE4 (io), 4 PE5 (io), 5 PE6 (io), 9 PC13 (io), 20 PF6 (io), 21 PF7 (io), 22 PF8 (io), 23 PF9 (io), 24 PF10 (io), 28 PC0 (io), 29 PC1 (io), 30 PC2_C (io), 31 PC3_C (io), 37 PA0 (io), 38 PA1 (io), 39 PA2 (io), 40 PA3 (io), 43 PA4 (io), 44 PA5 (io), 45 PA6 (io), 46 PA7 (io), 47 PC4 (io), 48 PC5 (io), 49 PB0 (io), 50 PB1 (io), 51 PB2 (io), 52 PF11 (io), 53 PF14 (io), 54 PF15 (io), 57 PE7 (io), 58 PE8 (io), 59 PE9 (io), 60 PE10 (io), 61 PE11 (io), 62 PE12 (io), 63 PE13 (io), 64 PE14 (io), 65 PE15 (io), 66 PB10 (io), 67 PB11 (io), 72 PB12 (io), 73 PB13 (io), 74 PB14 (io), 75 PB15 (io), 76 PD8 (io), 77 PD9 (io), 78 PD10 (io), 81 PD11 (io), 82 PD12 (io), 83 PD13 (io), 84 PD14 (io), 85 PD15 (io), 86 PG6 (io), 87 PG7 (io), 88 PG8 (io), 93 PC6 (io), 94 PC7 (io), 95 PC8 (io), 96 PC9 (io), 97 PA8 (io), 98 PA9 (io), 99 PA10 (io), 100 PA11 (io), 101 PA12 (io), 108 PA15 (io), 109 PC10 (io), 110 PC11 (io), 111 PC12 (io), 112 PD0 (io), 113 PD1 (io), 114 PD2 (io), 115 PD3 (io), 116 PD4 (io), 117 PD5 (io), 120 PD6 (io), 121 PD7 (io), 122 PG9 (io), 123 PG10 (io), 124 PG11 (io), 125 PG12 (io), 126 PG13 (io), 127 PG14 (io), 130 PB3 (io), 131 PB4 (io), 132 PB5 (io), 133 PB6 (io), 134 PB7 (io), 136 PB8 (io), 137 PB9 (io), 138 PE0 (io), 139 PE1 (io)
part B pins: 6 VSS, 7 VDD, 8 VBAT, 12 VSS, 13 VDD, 14 VSSSMPS, 15 VLXSMPS, 16 VDDSMPS (power), 17 VFBSMPS, 18 VSS, 19 VDD, 32 VDD, 33 VSS, 34 VSSA, 35 VREF+, 36 VDDA, 41 VSS, 42 VDD, 55 VSS, 56 VDD, 68 VCAP, 69 VSS, 70 VDDLDO, 71 VDD, 79 VDD, 80 VSS, 89 VSS, 90 VDD50USB, 91 VDD33USB, 92 VDD, 103 VCAP, 104 VSS, 105 VDDLDO, 106 VDD, 118 VSS, 119 VDD, 128 VSS, 129 VDD, 140 VCAP, 141 VSS, 143 VDD_LDO, 144 VDD
part C pins: 10 PC14-OSC32_IN (io), 11 PC15-OSC32_OUT (io), 25 PH0-OSC_IN (io), 26 PH1-OSC_OUT (io), 27 NRST (io), 102 PA13-SWDIO (io), 107 PA14-SWCLK (io), 135 BOOT0 (io), 142 PDR_ON
part A text: 1 of 3
part B text: 2 of 3
part C text: 3 of 3

## IC MEM 8GB SLC NAND 24NM BGA 9X11 3.3V
designator U?, comment TH58NVG3S0HBAI4
IC MEM 8GB SLC NAND 24NM BGA 9X11 3.3V; 1. Manufacturer: Kioxia America, Inc.; 2. Manufacturer Part Number: TH58NVG3S0HBAI4; 3. Date Modified: 20200907
footprint VFBGA-63 (TH58NVG3S0HBAI4)
pins: C3 ~{WP}, C4 ALE, C5 VSS, C6 ~{CE}, C7 ~{WE}, C8 RY/~{BY}, D4 ~{RE}, D5 CLE, H4 IO1, H8 VCC, J4 IO2, J6 VCC, J7 IO6, J8 IO8, K3 VSS, K4 IO3, K5 IO4, K6 IO5, K7 IO7, K8 VSS

## IC NAND FLASH eMMC 512Gb LFBGA-153
designator U?, comment eMMC 64G
IC NAND FLASH eMMC 512Gb LFBGA-153; 1. Manufacturer: Micron; 2. Manufacturer Part Number: MTFC64GAKAEYF-4M IT; 3. Date Modified: 20201016
footprint LFBGA-153 (eMMC)
pins: A3 DAT0, A4 DAT1, A5 DAT2, A6 VSS, B2 DAT3, B3 DAT4, B4 DAT5, B5 DAT6, B6 DAT7, C2 VDDIM, C4 VSSQ, C6 VCCQ, E6 VCC, E7 VSS, F5 VCC, G5 VSS, H5 DS, H10 VSS, J5 VSS, J10 VCC, K5 RESETn, K8 VSS, K9 VCC, M4 VCCQ, M5 CMD, M6 CLK, N2 VSSQ, N4 VCCQ, N5 VSSQ, P3 VCCQ, P4 VSSQ, P5 VCCQ, P6 VSSQ

## IC OPAMP GP 1 CIRCUIT SOT23-5
designator U?, comment LMV321L
IC OPAMP GP 1 CIRCUIT SOT23-5; 1. Manufacturer: STMicroelectronics; 2. Manufacturer Part Number: LMV321LILT; 3. Date Modified: 20201125
footprint SOT-23-5
pins: 1 IN+, 2 VN, 3 IN-, 4 OUT, 5 VP

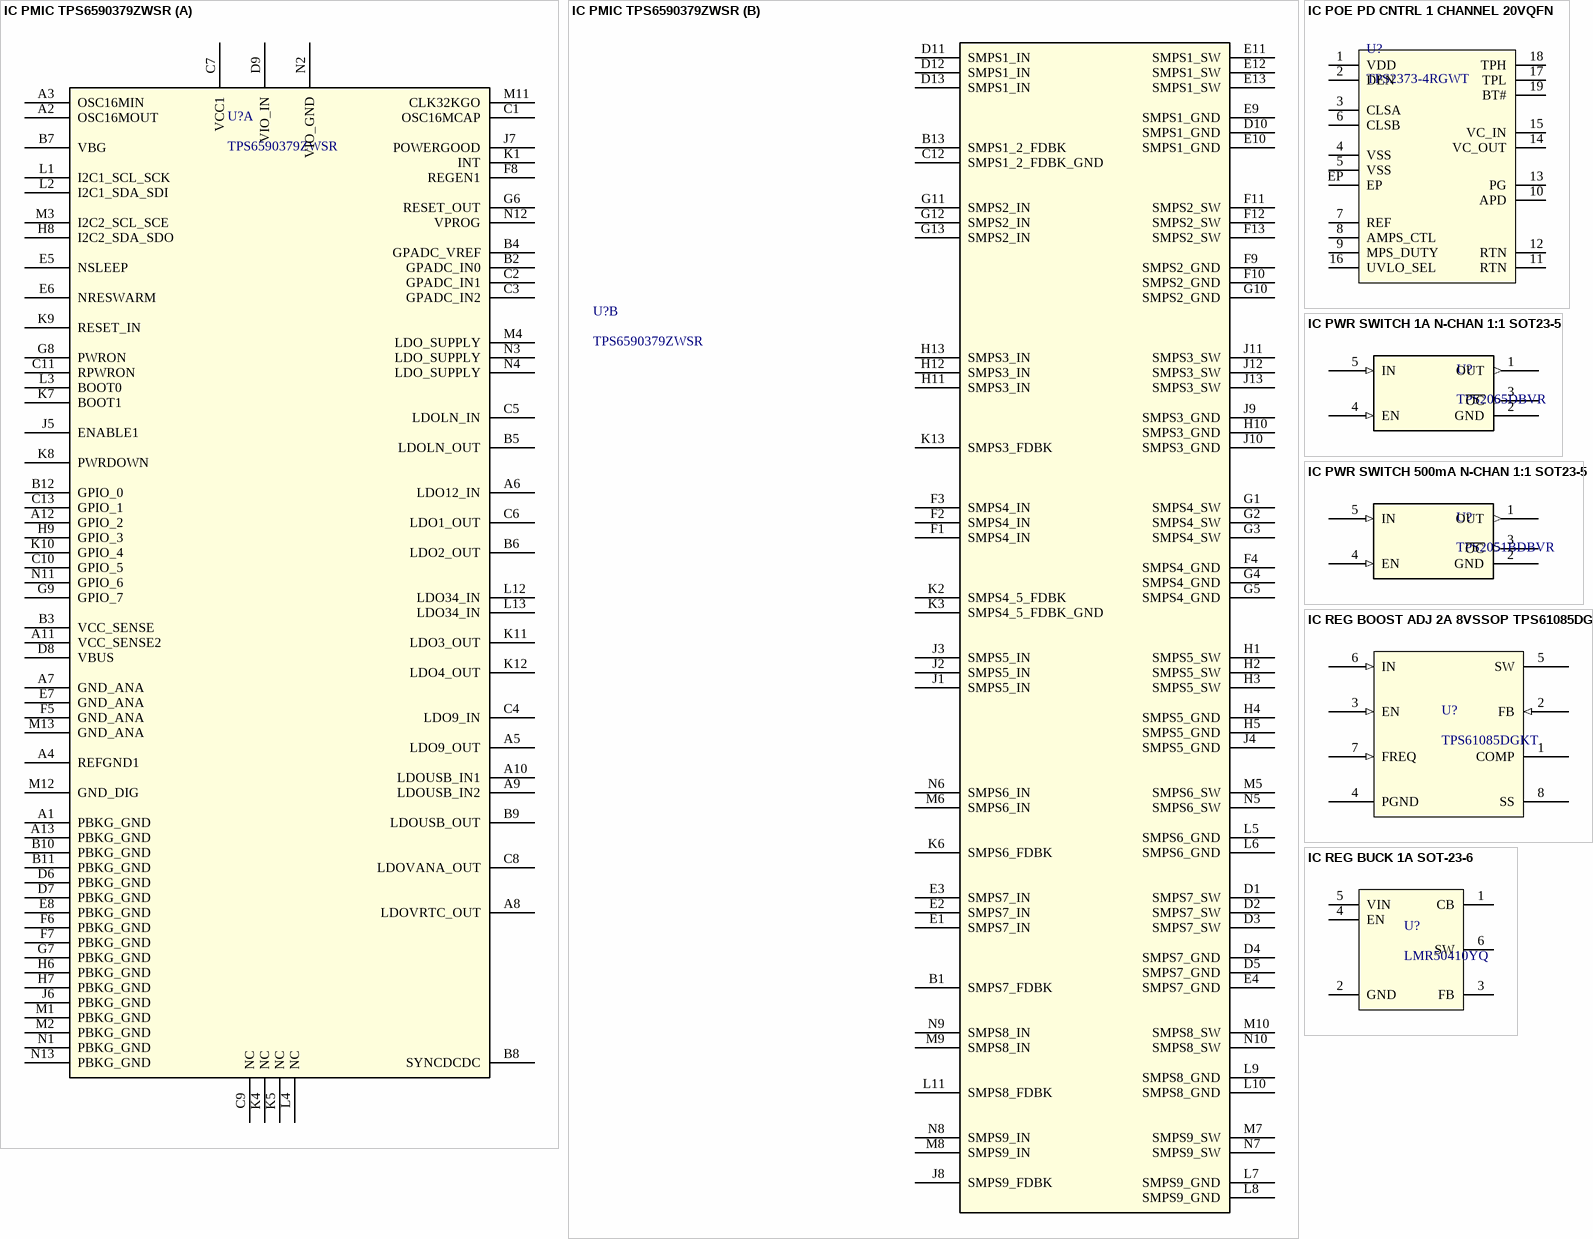
[diagram p7: symbols IC PMIC TPS6590379ZWSR to IC REG BUCK 1A SOT-23-6]

## IC PMIC TPS6590379ZWSR
designator U?, comment TPS6590379ZWSR
IC PMIC TPS6590379ZWSR; 1. Manufacturer: Texas Instruments; 2. Manufacturer Part Number: TPS6590379ZWSR; 3. Date Modified: 20200803
footprint ZWS169_TEX
part A pins: A1 PBKG_GND, A2 OSC16MOUT, A3 OSC16MIN, A4 REFGND1, A5 LDO9_OUT, A6 LDO12_IN, A7 GND_ANA, A8 LDOVRTC_OUT, A9 LDOUSB_IN2, A10 LDOUSB_IN1, A11 VCC_SENSE2, A12 GPIO_2, A13 PBKG_GND, B2 GPADC_IN0, B3 VCC_SENSE, B4 GPADC_VREF, B5 LDOLN_OUT, B6 LDO2_OUT, B7 VBG, B8 SYNCDCDC, B9 LDOUSB_OUT, B10 PBKG_GND, B11 PBKG_GND, B12 GPIO_0, C1 OSC16MCAP, C2 GPADC_IN1, C3 GPADC_IN2, C4 LDO9_IN, C5 LDOLN_IN, C6 LDO1_OUT, C7 VCC1, C8 LDOVANA_OUT, C9 NC, C10 GPIO_5, C11 RPWRON, C13 GPIO_1, D6 PBKG_GND, D7 PBKG_GND, D8 VBUS, D9 VIO_IN, E5 NSLEEP, E6 NRESWARM, E7 GND_ANA, E8 PBKG_GND, F5 GND_ANA, F6 PBKG_GND, F7 PBKG_GND, F8 REGEN1, G6 RESET_OUT, G7 PBKG_GND, G8 PWRON, G9 GPIO_7, H6 PBKG_GND, H7 PBKG_GND, H8 I2C2_SDA_SDO, H9 GPIO_3, J5 ENABLE1, J6 PBKG_GND, J7 POWERGOOD, K1 INT, K4 NC, K5 NC, K7 BOOT1, K8 PWRDOWN, K9 RESET_IN, K10 GPIO_4, K11 LDO3_OUT, K12 LDO4_OUT, L1 I2C1_SCL_SCK, L2 I2C1_SDA_SDI, L3 BOOT0, L4 NC, L12 LDO34_IN, L13 LDO34_IN, M1 PBKG_GND, M2 PBKG_GND, M3 I2C2_SCL_SCE, M4 LDO_SUPPLY, M11 CLK32KGO, M12 GND_DIG, M13 GND_ANA, N1 PBKG_GND, N2 VIO_GND, N3 LDO_SUPPLY, N4 LDO_SUPPLY, N11 GPIO_6, N12 VPROG, N13 PBKG_GND
part B pins: B1 SMPS7_FDBK (power), B13 SMPS1_2_FDBK (power), C12 SMPS1_2_FDBK_GND, D1 SMPS7_SW (power), D2 SMPS7_SW (power), D3 SMPS7_SW (power), D4 SMPS7_GND (power), D5 SMPS7_GND (power), D10 SMPS1_GND, D11 SMPS1_IN (power), D12 SMPS1_IN (power), D13 SMPS1_IN (power), E1 SMPS7_IN (power), E2 SMPS7_IN (power), E3 SMPS7_IN (power), E4 SMPS7_GND (power), E9 SMPS1_GND, E10 SMPS1_GND, E11 SMPS1_SW (power), E12 SMPS1_SW (power), E13 SMPS1_SW (power), F1 SMPS4_IN (power), F2 SMPS4_IN (power), F3 SMPS4_IN (power), F4 SMPS4_GND (power), F9 SMPS2_GND (power), F10 SMPS2_GND (power), F11 SMPS2_SW (power), F12 SMPS2_SW (power), F13 SMPS2_SW (power), G1 SMPS4_SW (power), G2 SMPS4_SW (power), G3 SMPS4_SW (power), G4 SMPS4_GND (power), G5 SMPS4_GND (power), G10 SMPS2_GND (power), G11 SMPS2_IN (power), G12 SMPS2_IN (power), G13 SMPS2_IN (power), H1 SMPS5_SW (power), H2 SMPS5_SW (power), H3 SMPS5_SW (power), H4 SMPS5_GND (power), H5 SMPS5_GND (power), H10 SMPS3_GND (power), H11 SMPS3_IN (power), H12 SMPS3_IN (power), H13 SMPS3_IN (power), J1 SMPS5_IN (power), J2 SMPS5_IN (power), J3 SMPS5_IN (power), J4 SMPS5_GND (power), J8 SMPS9_FDBK (power), J9 SMPS3_GND (power), J10 SMPS3_GND (power), J11 SMPS3_SW (power), J12 SMPS3_SW (power), J13 SMPS3_SW (power), K2 SMPS4_5_FDBK (power), K3 SMPS4_5_FDBK_GND (power), K6 SMPS6_FDBK (power), K13 SMPS3_FDBK (power), L5 SMPS6_GND (power), L6 SMPS6_GND (power), L7 SMPS9_GND, L8 SMPS9_GND, L9 SMPS8_GND, L10 SMPS8_GND, L11 SMPS8_FDBK (power), M5 SMPS6_SW (power), M6 SMPS6_IN (power), M7 SMPS9_SW (power), M8 SMPS9_IN (power), M9 SMPS8_IN (power), M10 SMPS8_SW (power), N5 SMPS6_SW (power), N6 SMPS6_IN (power), N7 SMPS9_SW (power), N8 SMPS9_IN (power), N9 SMPS8_IN (power), N10 SMPS8_SW (power)

## IC POE PD CNTRL 1 CHANNEL 20VQFN
designator U?, comment TPS2373-4RGWT
IC POE PD CNTRL 1 CHANNEL 20VQFN; 1. Manufacturer: Texas Instruments; 2. Manufacturer Part Number: TPS2373-4RGWT; 3. Date Modified: 20200824
footprint QFN-20 5x5
pins: 1 VDD, 2 DEN, 3 CLSA, 4 VSS, 5 VSS, 6 CLSB, 7 REF, 8 AMPS_CTL, 9 MPS_DUTY, 10 APD, 11 RTN, 12 RTN, 13 PG, 14 VC_OUT, 15 VC_IN, 16 UVLO_SEL, 17 TPL, 18 TPH, 19 BT#, EP

## IC PWR SWITCH 1A N-CHAN 1:1 SOT23-5
designator U?, comment TPS2065DBVR
IC PWR SWITCH 1A N-CHAN 1:1 SOT23-5; 1. Manufacturer: Texas Instruments; 2. Manufacturer Part Number: TPS2065DBVR; 3. Date Modified: 20200910
footprint SOT-23-5
pins: 1 OUT (out), 2 GND (power), 3 ~{OC} (out), 4 EN (in), 5 IN (in)

## IC PWR SWITCH 500mA N-CHAN 1:1 SOT23-5
designator U?, comment TPS2051BDBVR
IC PWR SWITCH 500mA N-CHAN 1:1 SOT23-5; 1. Manufacturer: Texas Instruments; 2. Manufacturer Part Number: TPS2051BDBVR; 3. Date Modified: 20200910
footprint SOT-23-5
pins: 1 OUT (out), 2 GND (power), 3 ~{OC} (out), 4 EN (in), 5 IN (in)

## IC REG BOOST ADJ 2A 8VSSOP TPS61085DGKT
designator U?, comment TPS61085DGKT
IC REG BOOST ADJ 2A 8VSSOP TPS61085DGKT; 1. Manufacturer: Texas Instruments; 2. Manufacturer Part Number: TPS61085DGKT; 3. Date Modified: 20200826
footprint VSSOP-8 (TPS61085)
pins: 1 COMP, 2 FB (in), 3 EN (in), 4 PGND (power), 5 SW, 6 IN (in), 7 FREQ (in), 8 SS